# Altium integrated library Lattice FPGA FPSC.IntLib: 28 symbols (part 2 of 9)
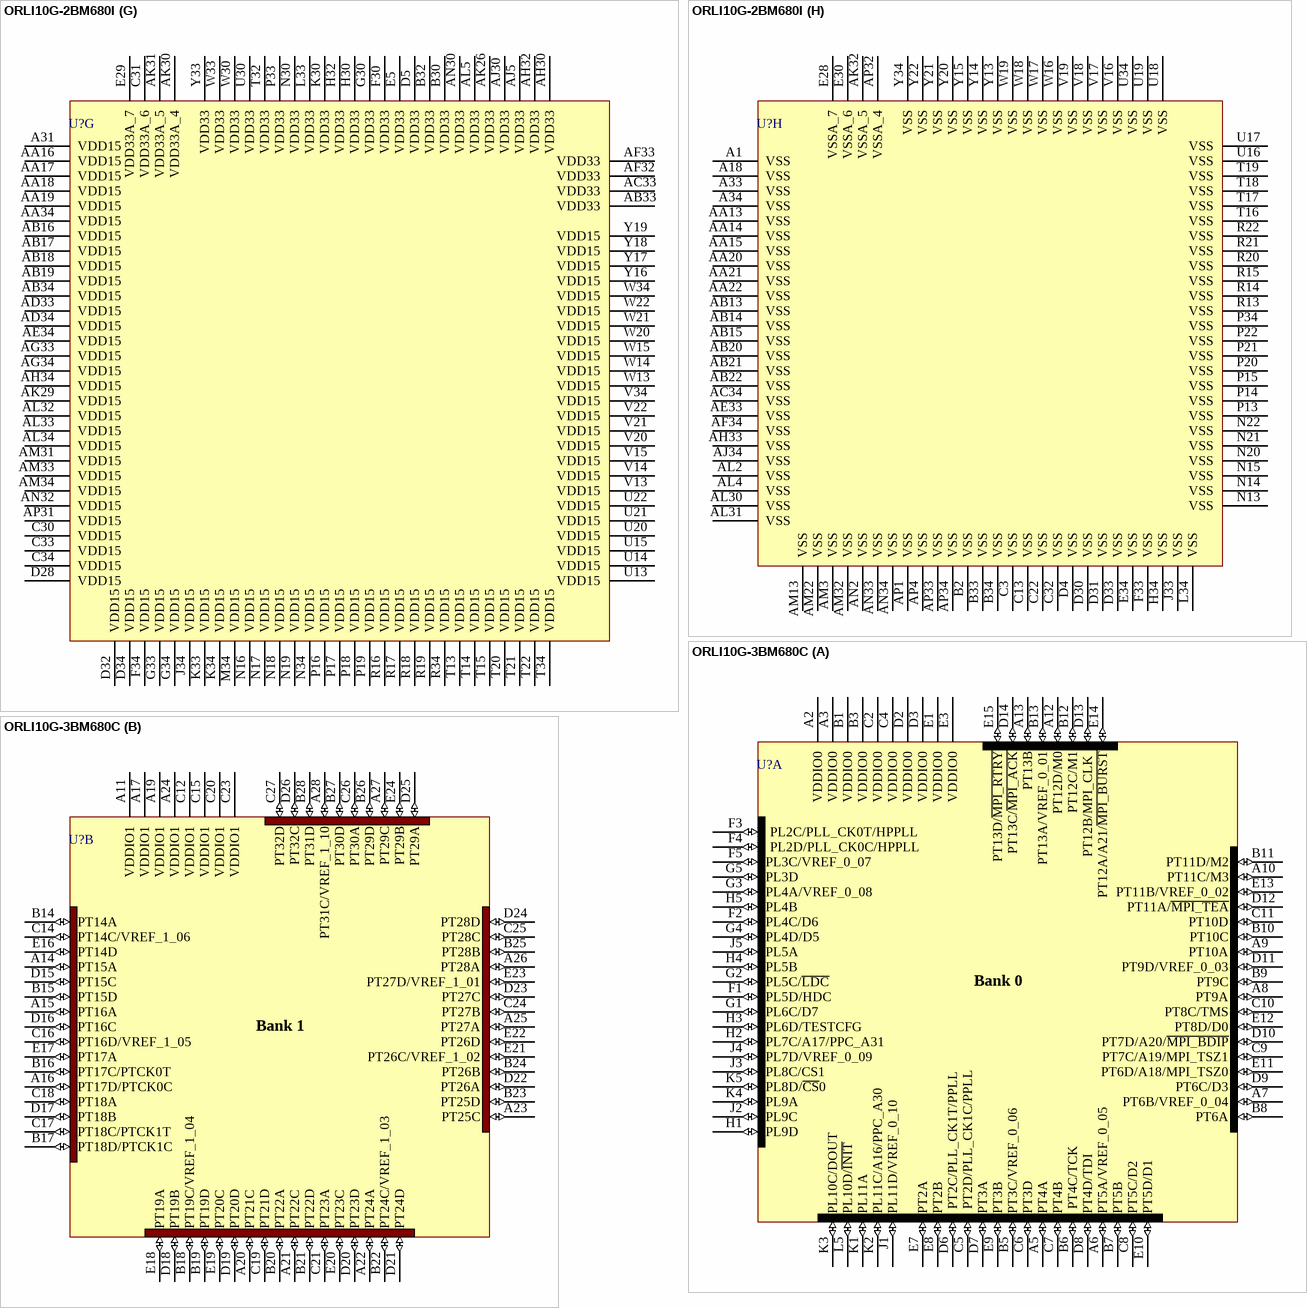
[diagram p53: symbols ORLI10G-2BM680I to ORLI10G-3BM680C]

## ORLI10G-2BM680I
designator U?
ORCA ORLI10G 10Gbps Line Interface FPSC: 316 User I/Os, 680-Ball fpBGA, Speed Grade 2, Industrial Grade; Published: 17-Dec-2003; LatestRevisionDate: 13-Apr-2006; LatestRevisionNote: IPC-7351 Footprint Added.; DatasheetVersion: orli10g_03 (Feb-2003); PackageVersion: pkg_32, Aug-2005; PackageReference: fpBGA680; Publisher: Altium Limited; PackageDescription: 680-Ball Fine Pitch Ball Grid Array (fpBGA680); ComponentLink1Description: Manufacturer Link; ComponentLink1URL: http://www.latticesemi.com/products/fpsc/orli10g/index.cfm; ComponentLink2Description: Datasheet; ComponentLink2URL: http://www.latticesemi.com/account/_download.cfm?AMID=3973; ComponentLink3Description: Lattice Login; ComponentLink3URL: http://www.latticesemi.com/account/login.cfm
footprint fpBGA680 (BGA, 680-Leads, Body 35x35mm, Pitch 1mm)
3D model ORLI10G-fpBGA680 (680-Ball Fine Pitch Ball Grid Array (fpBGA680))
part A pins: A2 VDDIO0 (power), A3 VDDIO0 (power), A5 PT4A (io), A6 PT5A/VREF_0_05 (io), A7 PT6B/VREF_0_04 (io), A8 PT9A (io), A9 PT10A (io), A10 PT11C/M3 (io), A12 PT12D/M0 (io), A13 PT13B (io), B1 VDDIO0 (power), B3 VDDIO0 (power), B5 PT3C/VREF_0_06 (io), B6 PT4C/TCK (io), B7 PT5B (io), B8 PT6A (io), B9 PT9C (io), B10 PT10C (io), B11 PT11D/M2 (io), B12 PT12C/M1 (io), B13 PT13A/VREF_0_01 (io), C2 VDDIO0 (power), C4 VDDIO0 (power), C5 PT2D/PLL_CK1C/PPLL (io), C6 PT3D (io), C7 PT4B (io), C8 PT5C/D2 (io), C9 PT7C/A19/MPI_TSZ1 (io), C10 PT8C/TMS (io), C11 PT10D (io), D2 VDDIO0 (power), D3 VDDIO0 (power), D6 PT2C/PLL_CK1T/PPLL (io), D7 PT3A (io), D8 PT4D/TDI (io), D9 PT6C/D3 (io), D10 PT7D/A20/~{MPI_BDIP} (io), D11 PT9D/VREF_0_03 (io), D12 PT11A/~{MPI_TEA} (io), D13 PT12B/MPI_CLK (io), D14 PT13C/~{MPI_ACK} (io), E1 VDDIO0 (power), E3 VDDIO0 (power), E7 PT2A (io), E8 PT2B (io), E9 PT3B (io), E10 PT5D/D1 (io), E11 PT6D/A18/MPI_TSZ0 (io), E12 PT8D/D0 (io), E13 PT11B/VREF_0_02 (io), E14 PT12A/A21/~{MPI_BURST} (io), E15 PT13D/~{MPI_RTRY} (io), F1 PL5D/HDC (io), F2 PL4C/D6 (io), F3 PL2C/PLL_CK0T/HPPLL (io), F4 PL2D/PLL_CK0C/HPPLL (io), F5 PL3C/VREF_0_07 (io), G1 PL6C/D7 (io), G2 PL5C/~{LDC} (io), G3 PL4A/VREF_0_08 (io), G4 PL4D/D5 (io), G5 PL3D (io), H1 PL9D (io), H2 PL7C/A17/PPC_A31 (io), H3 PL6D/TESTCFG (io), H4 PL5B (io), H5 PL4B (io), J1 PL11D/VREF_0_10 (io), J2 PL9C (io), J3 PL8C/CS1 (io), J4 PL7D/VREF_0_09 (io), J5 PL5A (io), K1 PL11A (io), K2 PL11C/A16/PPC_A30 (io), K3 PL10C/DOUT (io), K4 PL9A (io), K5 PL8D/~{CS}0 (io), L5 PL10D/~{INIT} (io)
part B pins: A11 VDDIO1 (power), A14 PT15A (io), A15 PT16A (io), A16 PT17D/PTCK0C (io), A17 VDDIO1 (power), A19 VDDIO1 (power), A20 PT21C (io), A21 PT22C (io), A22 PT24A (io), A23 PT25C (io), A24 VDDIO1 (power), A25 PT27A (io), A26 PT28A (io), A27 PT29C (io), A28 PT31C/VREF_1_10 (io), B14 PT14A (io), B15 PT15D (io), B16 PT17C/PTCK0T (io), B17 PT18D/PTCK1C (io), B18 PT19C/VREF_1_04 (io), B19 PT19D (io), B20 PT22A (io), B21 PT22D (io), B22 PT24C/VREF_1_03 (io), B23 PT25D (io), B24 PT26B (io), B25 PT28B (io), B26 PT29D (io), B27 PT30D (io), B28 PT31D (io), C12 VDDIO1 (power), C14 PT14C/VREF_1_06 (io), C15 VDDIO1 (power), C16 PT16D/VREF_1_05 (io), C17 PT18C/PTCK1T (io), C18 PT18A (io), C19 PT21D (io), C20 VDDIO1 (power), C21 PT23A (io), C23 VDDIO1 (power), C24 PT27B (io), C25 PT28C (io), C26 PT30A (io), C27 PT32D (io), D15 PT15C (io), D16 PT16C (io), D17 PT18B (io), D18 PT19B (io), D19 PT20D (io), D20 PT23D (io), D21 PT24D (io), D22 PT26A (io), D23 PT27C (io), D24 PT28D (io), D25 PT29A (io), D26 PT32C (io), E16 PT14D (io), E17 PT17A (io), E18 PT19A (io), E19 PT20C (io), E20 PT23C (io), E21 PT26C/VREF_1_02 (io), E22 PT26D (io), E23 PT27D/VREF_1_01 (io), E24 PT29B (io)
part C pins: AK16 PB18A (io), AK17 PB18D (io), AK18 PB20D (io), AK19 PB22D (io), AK20 PB23C/PBCK1T (io), AK21 PB26A (io), AK22 PB27A (io), AK23 PB28D/VREF_5_06 (io), AK24 PB29D (io), AK25 PB32D (io), AL17 PB18C/VREF_5_01 (io), AL18 PB20B (io), AL19 PB21C (io), AL20 PB22C (io), AL21 PB24C (io), AL22 PB26B (io), AL23 PB27B (io), AL24 PB27D (io), AL25 PB29C (io), AL26 PB32C (io), AM12 VDDIO5 (power), AM15 VDDIO5 (power), AM17 PB19A (io), AM18 PB19D/PBCK0C (io), AM19 PB21A (io), AM20 VDDIO5 (power), AM21 PB23D/PBCK1C (io), AM23 VDDIO5 (power), AM24 PB26D/VREF_5_05 (io), AM25 PB28C (io), AM26 PB30C (io), AM27 PB31D (io), AN16 PB17C (io), AN17 PB19B (io), AN18 PB20A (io), AN19 PB20C/VREF_5_02 (io), AN20 PB21D/VREF_5_03 (io), AN21 PB23A (io), AN22 PB24D (io), AN23 PB25C (io), AN24 PB25D/VREF_5_04 (io), AN25 PB27C (io), AN26 PB29A (io), AN27 PB30D (io), AN28 PB33C (io), AP11 VDDIO5 (power), AP15 PB17A (io), AP16 PB17D (io), AP17 VDDIO5 (power), AP18 PB19C/PBCK0T (io), AP19 VDDIO5 (power), AP20 PB21B (io), AP21 PB22A (io), AP22 PB24A (io), AP23 PB25A (io), AP24 VDDIO5 (power), AP25 PB26C (io), AP26 PB28A (io), AP27 PB30A (io), AP28 PB31C/VREF_5_07 (io), AP29 PB33D/VREF_5_08 (io)
part D pins: AD4 PL32C/VREF_6_01 (io), AD5 PL32D/D8 (io), AE3 PL32A (io), AE4 PL33C/D10 (io), AE5 PL33D/D9 (io), AF2 PL34D (io), AF3 PL34B (io), AF4 PL35A/D12 (io), AF5 PL34A (io), AG1 PL34C/VREF_6_02 (io), AG2 PL35B/D11 (io), AG3 PL36C (io), AG4 PL37D (io), AG5 PL37A/VREF_6_04 (io), AH1 PL36D (io), AH2 PL36B/VREF_6_03 (io), AH3 PL37B (io), AH4 PL38A (io), AH5 PL39B (io), AJ1 PL36A/D13 (io), AJ2 PL38C (io), AJ3 PL39D/PLL_CK7C/HPPLL (io), AJ4 PL39A (io), AK1 PL38B (io), AK2 PL39C/PLL_CK7T/HPPLL (io), AK4 VDDIO6 (power), AK5 VDDIO6 (power), AK6 PB2C/PLL_CK6T/PPLL (io), AK7 PB3A (io), AK8 PB6A (io), AK9 PB6D/D16 (io), AK10 PB7D/D18 (io), AK11 PB9D/D21 (io), AK12 PB11B (io), AK13 PB12B (io), AK14 PB13A (io), AK15 PB14B (io), AL1 VDDIO6 (power), AL3 VDDIO6 (power), AL6 PB2D/PLL_CK6C/PPLL (io), AL7 PB4C (io), AL8 PB6B (io), AL9 PB7C/D17 (io), AL10 PB8D/D19 (io), AL11 PB9C/D20 (io), AL12 PB12A (io), AL13 PB13B (io), AL14 PB14A (io), AL15 PB15D/D30 (io), AL16 PB16D/D31 (io), AM1 VDDIO6 (power), AM2 VDDIO6 (power), AM4 VDDIO6 (power), AM5 PB2A/DP2 (io), AM6 PB3D (io), AM7 PB4D (io), AM8 PB6C/D15 (io), AM9 PB8C/VREF_6_07 (io), AM10 PB10A (io), AM11 PB11A (io), AM14 PB15C/D29 (io), AM16 PB16C/VREF_6_11 (io), AN3 VDDIO6 (power), AN4 PB2B (io), AN5 PB3C (io), AN6 PB4A/VREF_6_05 (io), AN7 PB5C/VREF_6_06 (io), AN8 PB8A (io), AN9 PB10C/VREF_6_08 (io), AN10 PB11C/D23 (io), AN11 PB12C/VREF_6_09 (io), AN12 PB12D/D25 (io), AN13 PB13D/D27 (io), AN14 PB15A (io), AN15 PB16A (io), AP2 VDDIO6 (power), AP3 VDDIO6 (power), AP5 PB4B/DP3 (io), AP6 PB5D/D14 (io), AP7 PB7A (io), AP8 PB9A (io), AP9 PB10D/D22 (io), AP10 PB11D/D24 (io), AP12 PB13C/D26 (io), AP13 PB14C/VREF_6_10 (io), AP14 PB14D/D28 (io)
part E pins: AA1 PL26D/A6/PPC_A20 (io), AA2 PL25A (io), AA3 PL25C/A7/PPC_A21 (io), AA4 PL26B (io), AA5 PL27B (io), AB1 PL26C/A5/PPC_A19 (io), AB2 PL27D/~{WR}/MPI_RW (io), AB3 PL27C/VREF_7_07 (io), AB4 PL27A (io), AB5 PL29D/A3/PPC_A17 (io), AC1 PL28C/VREF_7_08 (io), AC2 PL28D/A4/PPC_A18 (io), AC3 VDDIO7 (power), AC4 PL29C/A2/PPC_A16 (io), AC5 PL30D/A1/PPC_A15 (io), AD1 VDDIO7 (power), AD2 PL29A (io), AD3 PL30C/A0/PPC_A14 (io), AE1 PL31D/DP0 (io), AE2 PL31C/DP1 (io), AF1 PL31A (io), L1 VDDIO7 (power), L2 PL13C/D4 (io), L3 PL13D/VREF_7_01 (io), L4 PL12C/A14/PPC_A28 (io), M1 PL14C/VREF_7_02 (io), M2 PL14D/RDY/~{BUSY}/RCLK (io), M3 VDDIO7 (power), M4 PL12B (io), M5 PL12D/A15/PPC_A29 (io), N1 PL17D/A11/PPC_A25 (io), N2 PL15C/A12/PPC_A26 (io), N3 PL15D/A13/PPC_A27 (io), N4 PL13B (io), N5 PL12A (io), P1 PL18D (io), P2 PL17C/VREF_7_03 (io), P3 PL16C (io), P4 PL16D (io), P5 PL13A (io), R1 PL18A (io), R2 PL18C (io), R3 VDDIO7 (power), R4 PL17A (io), R5 PL16A (io), T1 PL20D/PLCK0C (io), T2 PL18B (io), T3 PL19A (io), T4 PL19C/VREF_7_04 (io), T5 PL19D/~{RD}/~{MPI_STRB} (io), U1 VDDIO7 (power), U2 PL20A (io), U3 PL20C/PLCK0T (io), U4 PL20B (io), U5 PL19B (io), V1 PL21D/A10/PPC_A24 (io), V2 PL21C/A9/PPC_A23 (io), V3 PL21B (io), V4 PL21A (io), V5 PL22D/A8/PPC_A22 (io), W1 VDDIO7 (power), W2 PL23C (io), W3 PL23D (io), W4 PL22C/VREF_7_05 (io), W5 PL24D/PLCK1C (io), Y1 PL23A (io), Y2 PL24A (io), Y3 VDDIO7 (power), Y4 PL24C/PLCK1T (io), Y5 PL25D/VREF_7_06 (io)
part F pins: A4 ~{CFG_IRQ/MPI_IRQ} (out), A29 PLL_BYPASS (in), A30 PWRDN (in), A32 TX_DAT_OUT_40_N/TX_DAT_OUT_12_N (out), AA30 LVCTAP_5 (in), AA31 RX_CLK_IN_3_P (in), AA32 RX_DAT_IN_40_P/RX_DAT_IN_12_P (in), AA33 RX_DAT_IN_40_N/RX_DAT_IN_12_N (in), AB30 LVCTAP_4 (in), AB31 RX_CLK_IN_2_P (in), AB32 RX_CLK_IN_2_N (in), AC30 RX_DAT_IN_30_P/RX_DAT_IN_8_P (in), AC31 RX_DAT_IN_33_P/RX_DAT_IN_11_P (in), AC32 RX_DAT_IN_33_N/RX_DAT_IN_11_N (in), AD30 RX_DAT_IN_30_N/RX_DAT_IN_8_N (in), AD31 RX_DAT_IN_32_P/RX_DAT_IN_10_P (in), AD32 RX_DAT_IN_32_N/RX_DAT_IN_10_N (in), AE30 LVCTAP_3 (in), AE31 RX_DAT_IN_31_P/RX_DAT_IN_9_P (in), AE32 RX_DAT_IN_31_N/RX_DAT_IN_9_N (in), AF30 RX_DAT_IN_22_P/RX_DAT_IN_6_P (in), AF31 RX_CLK_IN_1_N (in), AG30 RX_DAT_IN_21_N/RX_DAT_IN_5_N (in), AG31 RX_DAT_IN_22_N/RX_DAT_IN_6_N (in), AG32 RX_CLK_IN_1_P (in), AH31 RX_DAT_IN_21_P/RX_DAT_IN_5_P (in), AJ31 LVCTAP_2 (in), AJ32 RX_DAT_IN_20_N/RX_DAT_IN_4_N (in), AJ33 RX_DAT_IN_23_N/RX_DAT_IN_7_N (in), AK3 PTEMP (in), AK27 RX_DAT_IN_13_P/RX_DAT_IN_3_P (in), AK28 RX_DAT_IN_13_N/RX_DAT_IN_3_N (in), AK33 RX_DAT_IN_20_P/RX_DAT_IN_4_P (in), AK34 RX_DAT_IN_23_P/RX_DAT_IN_7_P (in), AL27 RX_DAT_IN_10_P/RX_DAT_IN_0_P (in), AL28 RX_DAT_IN_12_P/RX_DAT_IN_2_P (in), AL29 RX_CLK_IN_0_P (in), AM28 RX_DAT_IN_10_N/RX_DAT_IN_0_N (in), AM29 RX_DAT_IN_12_N/RX_DAT_IN_2_N (in), AM30 RX_CLK_IN_0_N (in), AN1 LVDS_R, AN29 RX_DAT_IN_11_P/RX_DAT_IN_1_P (in), AN31 LVCTAP_1 (in), AP30 RX_DAT_IN_11_N/RX_DAT_IN_1_N (in), B4 CCLK (io), B29 RESET_TX (in), B31 TX_DAT_OUT_40_P/TX_DAT_OUT_12_P (out), C1 ~{RESET} (in), C28 TX_DAT_OUT_43_N/TX_DAT_OUT_15_N (out), C29 TX_DAT_OUT_42_P/TX_DAT_OUT_14_P (out), D1 ~{RD_CFG} (in), D27 TX_DAT_OUT_43_P/TX_DAT_OUT_15_P (out), D29 TX_DAT_OUT_42_N/TX_DAT_OUT_14_N (out), E2 ~{PRGRM} (in), E4 RD_DATA/TDO (out), E6 DONE (io), E25 RESET_RX (in), E26 TX_DAT_OUT_41_P/TX_DAT_OUT_13_P (out), E27 TX_DAT_OUT_41_N/TX_DAT_OUT_13_N (out), E31 TX_CLK_OUT_3_N (out), E32 TX_DAT_OUT_33_N/TX_DAT_OUT_11_N (out), E33 TX_DAT_OUT_33_P/TX_DAT_OUT_11_P (out), F31 TX_CLK_OUT_3_P (out), F32 TX_DAT_OUT_32_N/TX_DAT_OUT_10_N (out), G31 TX_DAT_OUT_32_P/TX_DAT_OUT_10_P (out), G32 LVCTAP_6 (in), H31 TX_CLK_IN_P (in), H33 TX_DAT_OUT_31_P/TX_DAT_OUT_9_P (out), J30 TX_CLK_IN_N (in), J31 TX_DAT_OUT_30_P/TX_DAT_OUT_8_P (out), J32 TX_DAT_OUT_31_N/TX_DAT_OUT_9_N (out), K31 TX_DAT_OUT_30_N/TX_DAT_OUT_8_N (out), K32 TX_DAT_OUT_23_N/TX_DAT_OUT_7_N (out), L30 TX_CLK_OUT_2_P (out), L31 TX_CLK_OUT_2_N (out), L32 TX_DAT_OUT_23_P/TX_DAT_OUT_7_P (out), M30 TX_DAT_OUT_22_N/TX_DAT_OUT_6_N (out), M31 TX_DAT_OUT_22_P/TX_DAT_OUT_6_P (out), M32 TX_DAT_OUT_21_N/TX_DAT_OUT_5_N (out), M33 TX_DAT_OUT_21_P/TX_DAT_OUT_5_P (out), N31 TX_DAT_OUT_20_N/TX_DAT_OUT_4_N (out), N32 TX_DAT_OUT_20_P/TX_DAT_OUT_4_P (out), N33 TX_DAT_OUT_13_P/TX_DAT_OUT_3_P (out), P30 TX_CLK_OUT_1_P (out), P31 TX_CLK_OUT_1_N (out), P32 TX_DAT_OUT_13_N/TX_DAT_OUT_3_N (out), R30 TX_DAT_OUT_12_N/TX_DAT_OUT_2_N (out), R31 TX_DAT_OUT_12_P/TX_DAT_OUT_2_P (out), R32 TX_DAT_OUT_11_N/TX_DAT_OUT_1_N (out), R33 TX_DAT_OUT_11_P/TX_DAT_OUT_1_P (out), T30 TX_DAT_OUT_10_N/TX_DAT_OUT_0_N (out), T31 TX_DAT_OUT_10_P/TX_DAT_OUT_0_P (out), T33 TX_CLK_OUT_0_N (out), U31 LV_RESLO (in), U32 TX_CLK_OUT_0_P (out), U33 LV_RESHI (in), V30 RX_DAT_IN_43_P/RX_DAT_IN_15_P (in), V31 RX_DAT_IN_43_N/RX_DAT_IN_15_N (in), V32 LV_REF10 (in), V33 LV_REF14 (in), W31 RX_DAT_IN_42_P/RX_DAT_IN_14_P (in), W32 RX_DAT_IN_42_N/RX_DAT_IN_14_N (in), Y30 RX_CLK_IN_3_N (in), Y31 RX_DAT_IN_41_P/RX_DAT_IN_13_P (in), Y32 RX_DAT_IN_41_N/RX_DAT_IN_13_N (in)
part G pins: A31 VDD15 (power), AA16 VDD15 (power), AA17 VDD15 (power), AA18 VDD15 (power), AA19 VDD15 (power), AA34 VDD15 (power), AB16 VDD15 (power), AB17 VDD15 (power), AB18 VDD15 (power), AB19 VDD15 (power), AB33 VDD33 (power), AB34 VDD15 (power), AC33 VDD33 (power), AD33 VDD15 (power), AD34 VDD15 (power), AE34 VDD15 (power), AF32 VDD33 (power), AF33 VDD33 (power), AG33 VDD15 (power), AG34 VDD15 (power), AH30 VDD33 (power), AH32 VDD33 (power), AH34 VDD15 (power), AJ5 VDD33 (power), AJ30 VDD33 (power), AK26 VDD33 (power), AK29 VDD15 (power), AK30 VDD33A_4 (power), AK31 VDD33A_5 (power), AL5 VDD33 (power), AL32 VDD15 (power), AL33 VDD15 (power), AL34 VDD15 (power), AM31 VDD15 (power), AM33 VDD15 (power), AM34 VDD15 (power), AN30 VDD33 (power), AN32 VDD15 (power), AP31 VDD15 (power), B30 VDD33 (power), B32 VDD33 (power), C30 VDD15 (power), C31 VDD33A_6 (power), C33 VDD15 (power), C34 VDD15 (power), D5 VDD33 (power), D28 VDD15 (power), D32 VDD15 (power), D34 VDD15 (power), E5 VDD33 (power), E29 VDD33A_7 (power), F30 VDD33 (power), F34 VDD15 (power), G30 VDD33 (power), G33 VDD15 (power), G34 VDD15 (power), H30 VDD33 (power), H32 VDD33 (power), J34 VDD15 (power), K30 VDD33 (power), K33 VDD15 (power), K34 VDD15 (power), L33 VDD33 (power), M34 VDD15 (power), N16 VDD15 (power), N17 VDD15 (power), N18 VDD15 (power), N19 VDD15 (power), N30 VDD33 (power), N34 VDD15 (power), P16 VDD15 (power), P17 VDD15 (power), P18 VDD15 (power), P19 VDD15 (power), P33 VDD33 (power), R16 VDD15 (power), R17 VDD15 (power), R18 VDD15 (power), R19 VDD15 (power), R34 VDD15 (power), T13 VDD15 (power), T14 VDD15 (power), T15 VDD15 (power), T20 VDD15 (power), T21 VDD15 (power), T22 VDD15 (power), T32 VDD33 (power), T34 VDD15 (power), U13 VDD15 (power), U14 VDD15 (power), U15 VDD15 (power), U20 VDD15 (power), U21 VDD15 (power), U22 VDD15 (power), U30 VDD33 (power), V13 VDD15 (power), V14 VDD15 (power), V15 VDD15 (power), V20 VDD15 (power), V21 VDD15 (power), V22 VDD15 (power), V34 VDD15 (power), W13 VDD15 (power), W14 VDD15 (power), W15 VDD15 (power), W20 VDD15 (power), W21 VDD15 (power), W22 VDD15 (power), W30 VDD33 (power), W33 VDD33 (power), W34 VDD15 (power), Y16 VDD15 (power), Y17 VDD15 (power), Y18 VDD15 (power), Y19 VDD15 (power), Y33 VDD33 (power)
part H pins: A1 VSS (power), A18 VSS (power), A33 VSS (power), A34 VSS (power), AA13 VSS (power), AA14 VSS (power), AA15 VSS (power), AA20 VSS (power), AA21 VSS (power), AA22 VSS (power), AB13 VSS (power), AB14 VSS (power), AB15 VSS (power), AB20 VSS (power), AB21 VSS (power), AB22 VSS (power), AC34 VSS (power), AE33 VSS (power), AF34 VSS (power), AH33 VSS (power), AJ34 VSS (power), AK32 VSSA_5 (power), AL2 VSS (power), AL4 VSS (power), AL30 VSS (power), AL31 VSS (power), AM3 VSS (power), AM13 VSS (power), AM22 VSS (power), AM32 VSS (power), AN2 VSS (power), AN33 VSS (power), AN34 VSS (power), AP1 VSS (power), AP4 VSS (power), AP32 VSSA_4 (power), AP33 VSS (power), AP34 VSS (power), B2 VSS (power), B33 VSS (power), B34 VSS (power), C3 VSS (power), C13 VSS (power), C22 VSS (power), C32 VSS (power), D4 VSS (power), D30 VSS (power), D31 VSS (power), D33 VSS (power), E28 VSSA_7 (power), E30 VSSA_6 (power), E34 VSS (power), F33 VSS (power), H34 VSS (power), J33 VSS (power), L34 VSS (power), N13 VSS (power), N14 VSS (power), N15 VSS (power), N20 VSS (power), N21 VSS (power), N22 VSS (power), P13 VSS (power), P14 VSS (power), P15 VSS (power), P20 VSS (power), P21 VSS (power), P22 VSS (power), P34 VSS (power), R13 VSS (power), R14 VSS (power), R15 VSS (power), R20 VSS (power), R21 VSS (power), R22 VSS (power), T16 VSS (power), T17 VSS (power), T18 VSS (power), T19 VSS (power), U16 VSS (power), U17 VSS (power), U18 VSS (power), U19 VSS (power), U34 VSS (power), V16 VSS (power), V17 VSS (power), V18 VSS (power), V19 VSS (power), W16 VSS (power), W17 VSS (power), W18 VSS (power), W19 VSS (power), Y13 VSS (power), Y14 VSS (power), Y15 VSS (power), Y20 VSS (power), Y21 VSS (power), Y22 VSS (power), Y34 VSS (power)
part A text: Bank 0
part B text: Bank 1
part C text: Bank 5
part D text: Bank 6
part E text: Bank 7

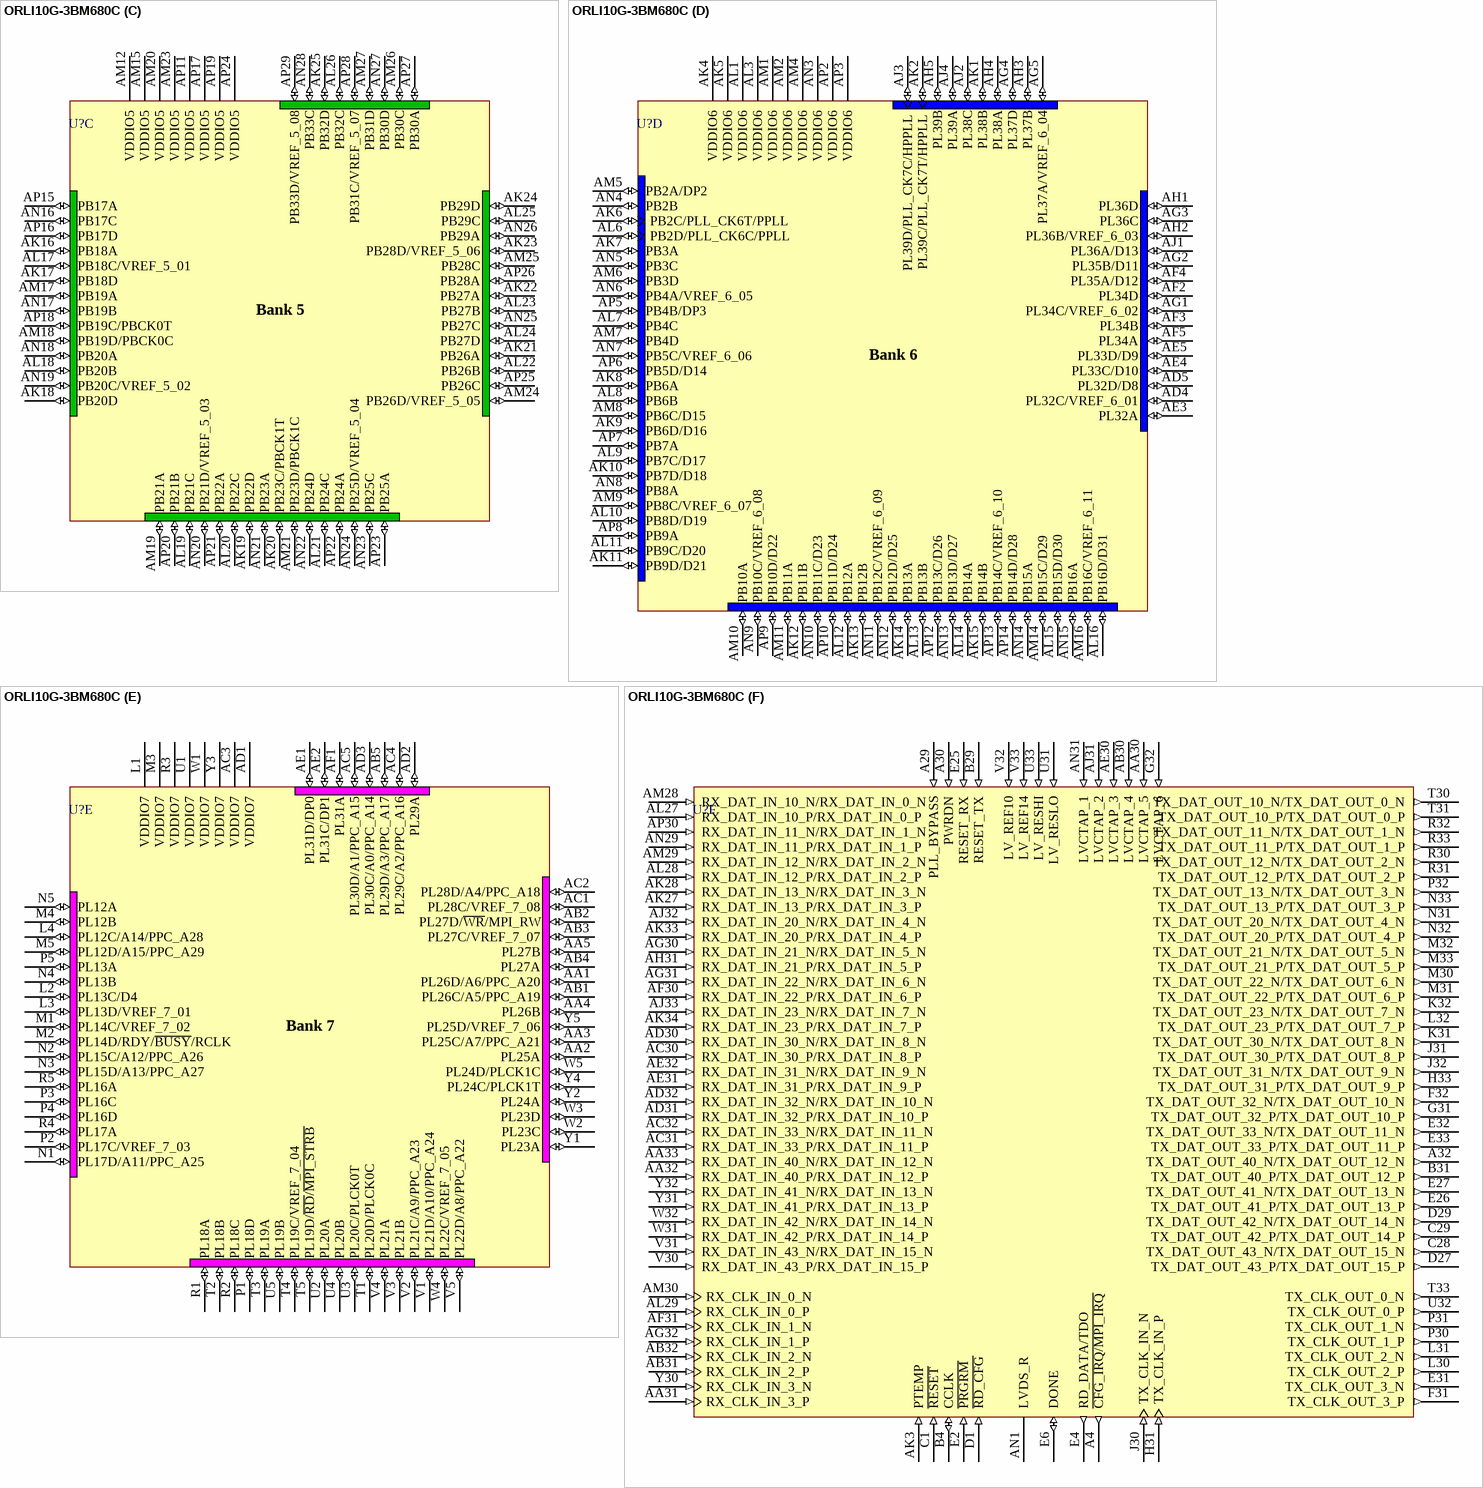
[diagram p9: symbol ORLI10G-3BM680C]

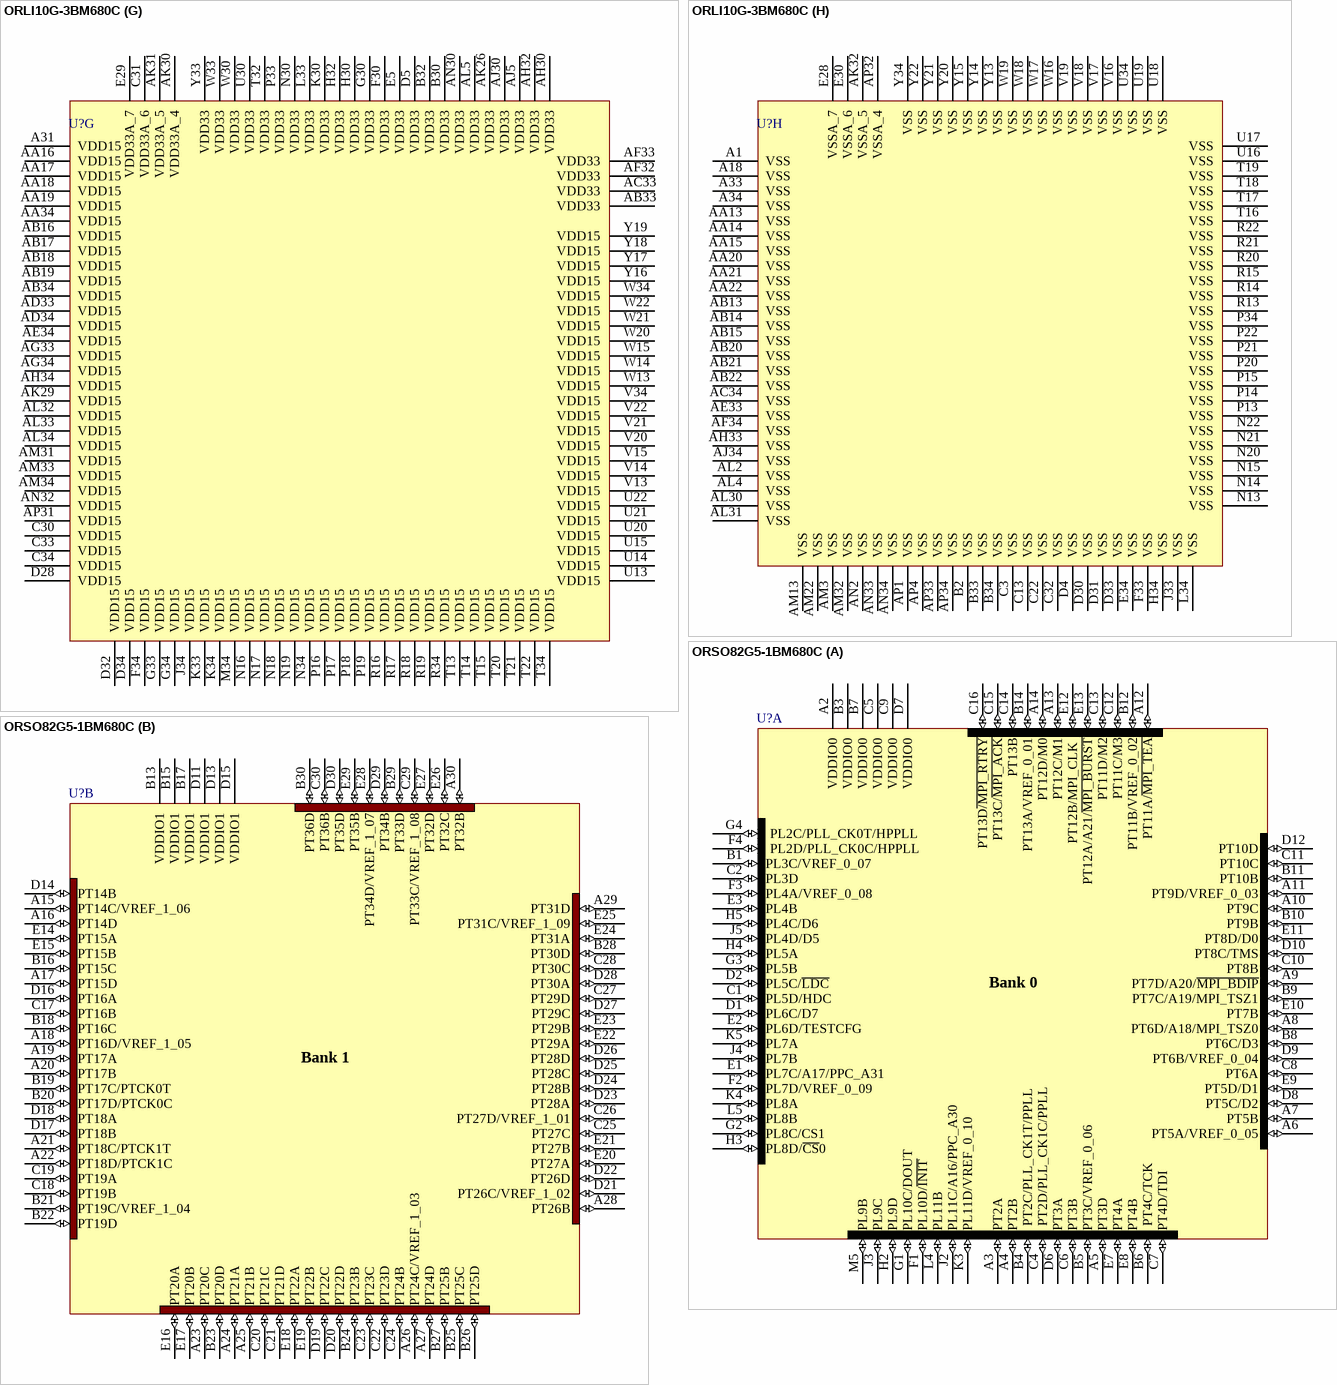
[diagram p10: symbols ORLI10G-3BM680C to ORSO82G5-1BM680C]

## ORLI10G-3BM680C
designator U?
ORCA ORLI10G 10Gbps Line Interface FPSC: 316 User I/Os, 680-Ball fpBGA, Speed Grade 3, Commercial Grade; Published: 17-Dec-2003; LatestRevisionDate: 13-Apr-2006; LatestRevisionNote: IPC-7351 Footprint Added.; DatasheetVersion: orli10g_03 (Feb-2003); PackageVersion: pkg_32, Aug-2005; PackageReference: fpBGA680; Publisher: Altium Limited; PackageDescription: 680-Ball Fine Pitch Ball Grid Array (fpBGA680); ComponentLink1Description: Manufacturer Link; ComponentLink1URL: http://www.latticesemi.com/products/fpsc/orli10g/index.cfm; ComponentLink2Description: Datasheet; ComponentLink2URL: http://www.latticesemi.com/account/_download.cfm?AMID=3973; ComponentLink3Description: Lattice Login; ComponentLink3URL: http://www.latticesemi.com/account/login.cfm
footprint fpBGA680 (BGA, 680-Leads, Body 35x35mm, Pitch 1mm)
3D model ORLI10G-fpBGA680 (680-Ball Fine Pitch Ball Grid Array (fpBGA680))
part A pins: A2 VDDIO0 (power), A3 VDDIO0 (power), A5 PT4A (io), A6 PT5A/VREF_0_05 (io), A7 PT6B/VREF_0_04 (io), A8 PT9A (io), A9 PT10A (io), A10 PT11C/M3 (io), A12 PT12D/M0 (io), A13 PT13B (io), B1 VDDIO0 (power), B3 VDDIO0 (power), B5 PT3C/VREF_0_06 (io), B6 PT4C/TCK (io), B7 PT5B (io), B8 PT6A (io), B9 PT9C (io), B10 PT10C (io), B11 PT11D/M2 (io), B12 PT12C/M1 (io), B13 PT13A/VREF_0_01 (io), C2 VDDIO0 (power), C4 VDDIO0 (power), C5 PT2D/PLL_CK1C/PPLL (io), C6 PT3D (io), C7 PT4B (io), C8 PT5C/D2 (io), C9 PT7C/A19/MPI_TSZ1 (io), C10 PT8C/TMS (io), C11 PT10D (io), D2 VDDIO0 (power), D3 VDDIO0 (power), D6 PT2C/PLL_CK1T/PPLL (io), D7 PT3A (io), D8 PT4D/TDI (io), D9 PT6C/D3 (io), D10 PT7D/A20/~{MPI_BDIP} (io), D11 PT9D/VREF_0_03 (io), D12 PT11A/~{MPI_TEA} (io), D13 PT12B/MPI_CLK (io), D14 PT13C/~{MPI_ACK} (io), E1 VDDIO0 (power), E3 VDDIO0 (power), E7 PT2A (io), E8 PT2B (io), E9 PT3B (io), E10 PT5D/D1 (io), E11 PT6D/A18/MPI_TSZ0 (io), E12 PT8D/D0 (io), E13 PT11B/VREF_0_02 (io), E14 PT12A/A21/~{MPI_BURST} (io), E15 PT13D/~{MPI_RTRY} (io), F1 PL5D/HDC (io), F2 PL4C/D6 (io), F3 PL2C/PLL_CK0T/HPPLL (io), F4 PL2D/PLL_CK0C/HPPLL (io), F5 PL3C/VREF_0_07 (io), G1 PL6C/D7 (io), G2 PL5C/~{LDC} (io), G3 PL4A/VREF_0_08 (io), G4 PL4D/D5 (io), G5 PL3D (io), H1 PL9D (io), H2 PL7C/A17/PPC_A31 (io), H3 PL6D/TESTCFG (io), H4 PL5B (io), H5 PL4B (io), J1 PL11D/VREF_0_10 (io), J2 PL9C (io), J3 PL8C/CS1 (io), J4 PL7D/VREF_0_09 (io), J5 PL5A (io), K1 PL11A (io), K2 PL11C/A16/PPC_A30 (io), K3 PL10C/DOUT (io), K4 PL9A (io), K5 PL8D/~{CS}0 (io), L5 PL10D/~{INIT} (io)
part B pins: A11 VDDIO1 (power), A14 PT15A (io), A15 PT16A (io), A16 PT17D/PTCK0C (io), A17 VDDIO1 (power), A19 VDDIO1 (power), A20 PT21C (io), A21 PT22C (io), A22 PT24A (io), A23 PT25C (io), A24 VDDIO1 (power), A25 PT27A (io), A26 PT28A (io), A27 PT29C (io), A28 PT31C/VREF_1_10 (io), B14 PT14A (io), B15 PT15D (io), B16 PT17C/PTCK0T (io), B17 PT18D/PTCK1C (io), B18 PT19C/VREF_1_04 (io), B19 PT19D (io), B20 PT22A (io), B21 PT22D (io), B22 PT24C/VREF_1_03 (io), B23 PT25D (io), B24 PT26B (io), B25 PT28B (io), B26 PT29D (io), B27 PT30D (io), B28 PT31D (io), C12 VDDIO1 (power), C14 PT14C/VREF_1_06 (io), C15 VDDIO1 (power), C16 PT16D/VREF_1_05 (io), C17 PT18C/PTCK1T (io), C18 PT18A (io), C19 PT21D (io), C20 VDDIO1 (power), C21 PT23A (io), C23 VDDIO1 (power), C24 PT27B (io), C25 PT28C (io), C26 PT30A (io), C27 PT32D (io), D15 PT15C (io), D16 PT16C (io), D17 PT18B (io), D18 PT19B (io), D19 PT20D (io), D20 PT23D (io), D21 PT24D (io), D22 PT26A (io), D23 PT27C (io), D24 PT28D (io), D25 PT29A (io), D26 PT32C (io), E16 PT14D (io), E17 PT17A (io), E18 PT19A (io), E19 PT20C (io), E20 PT23C (io), E21 PT26C/VREF_1_02 (io), E22 PT26D (io), E23 PT27D/VREF_1_01 (io), E24 PT29B (io)
part C pins: AK16 PB18A (io), AK17 PB18D (io), AK18 PB20D (io), AK19 PB22D (io), AK20 PB23C/PBCK1T (io), AK21 PB26A (io), AK22 PB27A (io), AK23 PB28D/VREF_5_06 (io), AK24 PB29D (io), AK25 PB32D (io), AL17 PB18C/VREF_5_01 (io), AL18 PB20B (io), AL19 PB21C (io), AL20 PB22C (io), AL21 PB24C (io), AL22 PB26B (io), AL23 PB27B (io), AL24 PB27D (io), AL25 PB29C (io), AL26 PB32C (io), AM12 VDDIO5 (power), AM15 VDDIO5 (power), AM17 PB19A (io), AM18 PB19D/PBCK0C (io), AM19 PB21A (io), AM20 VDDIO5 (power), AM21 PB23D/PBCK1C (io), AM23 VDDIO5 (power), AM24 PB26D/VREF_5_05 (io), AM25 PB28C (io), AM26 PB30C (io), AM27 PB31D (io), AN16 PB17C (io), AN17 PB19B (io), AN18 PB20A (io), AN19 PB20C/VREF_5_02 (io), AN20 PB21D/VREF_5_03 (io), AN21 PB23A (io), AN22 PB24D (io), AN23 PB25C (io), AN24 PB25D/VREF_5_04 (io), AN25 PB27C (io), AN26 PB29A (io), AN27 PB30D (io), AN28 PB33C (io), AP11 VDDIO5 (power), AP15 PB17A (io), AP16 PB17D (io), AP17 VDDIO5 (power), AP18 PB19C/PBCK0T (io), AP19 VDDIO5 (power), AP20 PB21B (io), AP21 PB22A (io), AP22 PB24A (io), AP23 PB25A (io), AP24 VDDIO5 (power), AP25 PB26C (io), AP26 PB28A (io), AP27 PB30A (io), AP28 PB31C/VREF_5_07 (io), AP29 PB33D/VREF_5_08 (io)
part D pins: AD4 PL32C/VREF_6_01 (io), AD5 PL32D/D8 (io), AE3 PL32A (io), AE4 PL33C/D10 (io), AE5 PL33D/D9 (io), AF2 PL34D (io), AF3 PL34B (io), AF4 PL35A/D12 (io), AF5 PL34A (io), AG1 PL34C/VREF_6_02 (io), AG2 PL35B/D11 (io), AG3 PL36C (io), AG4 PL37D (io), AG5 PL37A/VREF_6_04 (io), AH1 PL36D (io), AH2 PL36B/VREF_6_03 (io), AH3 PL37B (io), AH4 PL38A (io), AH5 PL39B (io), AJ1 PL36A/D13 (io), AJ2 PL38C (io), AJ3 PL39D/PLL_CK7C/HPPLL (io), AJ4 PL39A (io), AK1 PL38B (io), AK2 PL39C/PLL_CK7T/HPPLL (io), AK4 VDDIO6 (power), AK5 VDDIO6 (power), AK6 PB2C/PLL_CK6T/PPLL (io), AK7 PB3A (io), AK8 PB6A (io), AK9 PB6D/D16 (io), AK10 PB7D/D18 (io), AK11 PB9D/D21 (io), AK12 PB11B (io), AK13 PB12B (io), AK14 PB13A (io), AK15 PB14B (io), AL1 VDDIO6 (power), AL3 VDDIO6 (power), AL6 PB2D/PLL_CK6C/PPLL (io), AL7 PB4C (io), AL8 PB6B (io), AL9 PB7C/D17 (io), AL10 PB8D/D19 (io), AL11 PB9C/D20 (io), AL12 PB12A (io), AL13 PB13B (io), AL14 PB14A (io), AL15 PB15D/D30 (io), AL16 PB16D/D31 (io), AM1 VDDIO6 (power), AM2 VDDIO6 (power), AM4 VDDIO6 (power), AM5 PB2A/DP2 (io), AM6 PB3D (io), AM7 PB4D (io), AM8 PB6C/D15 (io), AM9 PB8C/VREF_6_07 (io), AM10 PB10A (io), AM11 PB11A (io), AM14 PB15C/D29 (io), AM16 PB16C/VREF_6_11 (io), AN3 VDDIO6 (power), AN4 PB2B (io), AN5 PB3C (io), AN6 PB4A/VREF_6_05 (io), AN7 PB5C/VREF_6_06 (io), AN8 PB8A (io), AN9 PB10C/VREF_6_08 (io), AN10 PB11C/D23 (io), AN11 PB12C/VREF_6_09 (io), AN12 PB12D/D25 (io), AN13 PB13D/D27 (io), AN14 PB15A (io), AN15 PB16A (io), AP2 VDDIO6 (power), AP3 VDDIO6 (power), AP5 PB4B/DP3 (io), AP6 PB5D/D14 (io), AP7 PB7A (io), AP8 PB9A (io), AP9 PB10D/D22 (io), AP10 PB11D/D24 (io), AP12 PB13C/D26 (io), AP13 PB14C/VREF_6_10 (io), AP14 PB14D/D28 (io)
part E pins: AA1 PL26D/A6/PPC_A20 (io), AA2 PL25A (io), AA3 PL25C/A7/PPC_A21 (io), AA4 PL26B (io), AA5 PL27B (io), AB1 PL26C/A5/PPC_A19 (io), AB2 PL27D/~{WR}/MPI_RW (io), AB3 PL27C/VREF_7_07 (io), AB4 PL27A (io), AB5 PL29D/A3/PPC_A17 (io), AC1 PL28C/VREF_7_08 (io), AC2 PL28D/A4/PPC_A18 (io), AC3 VDDIO7 (power), AC4 PL29C/A2/PPC_A16 (io), AC5 PL30D/A1/PPC_A15 (io), AD1 VDDIO7 (power), AD2 PL29A (io), AD3 PL30C/A0/PPC_A14 (io), AE1 PL31D/DP0 (io), AE2 PL31C/DP1 (io), AF1 PL31A (io), L1 VDDIO7 (power), L2 PL13C/D4 (io), L3 PL13D/VREF_7_01 (io), L4 PL12C/A14/PPC_A28 (io), M1 PL14C/VREF_7_02 (io), M2 PL14D/RDY/~{BUSY}/RCLK (io), M3 VDDIO7 (power), M4 PL12B (io), M5 PL12D/A15/PPC_A29 (io), N1 PL17D/A11/PPC_A25 (io), N2 PL15C/A12/PPC_A26 (io), N3 PL15D/A13/PPC_A27 (io), N4 PL13B (io), N5 PL12A (io), P1 PL18D (io), P2 PL17C/VREF_7_03 (io), P3 PL16C (io), P4 PL16D (io), P5 PL13A (io), R1 PL18A (io), R2 PL18C (io), R3 VDDIO7 (power), R4 PL17A (io), R5 PL16A (io), T1 PL20D/PLCK0C (io), T2 PL18B (io), T3 PL19A (io), T4 PL19C/VREF_7_04 (io), T5 PL19D/~{RD}/~{MPI_STRB} (io), U1 VDDIO7 (power), U2 PL20A (io), U3 PL20C/PLCK0T (io), U4 PL20B (io), U5 PL19B (io), V1 PL21D/A10/PPC_A24 (io), V2 PL21C/A9/PPC_A23 (io), V3 PL21B (io), V4 PL21A (io), V5 PL22D/A8/PPC_A22 (io), W1 VDDIO7 (power), W2 PL23C (io), W3 PL23D (io), W4 PL22C/VREF_7_05 (io), W5 PL24D/PLCK1C (io), Y1 PL23A (io), Y2 PL24A (io), Y3 VDDIO7 (power), Y4 PL24C/PLCK1T (io), Y5 PL25D/VREF_7_06 (io)
part F pins: A4 ~{CFG_IRQ/MPI_IRQ} (out), A29 PLL_BYPASS (in), A30 PWRDN (in), A32 TX_DAT_OUT_40_N/TX_DAT_OUT_12_N (out), AA30 LVCTAP_5 (in), AA31 RX_CLK_IN_3_P (in), AA32 RX_DAT_IN_40_P/RX_DAT_IN_12_P (in), AA33 RX_DAT_IN_40_N/RX_DAT_IN_12_N (in), AB30 LVCTAP_4 (in), AB31 RX_CLK_IN_2_P (in), AB32 RX_CLK_IN_2_N (in), AC30 RX_DAT_IN_30_P/RX_DAT_IN_8_P (in), AC31 RX_DAT_IN_33_P/RX_DAT_IN_11_P (in), AC32 RX_DAT_IN_33_N/RX_DAT_IN_11_N (in), AD30 RX_DAT_IN_30_N/RX_DAT_IN_8_N (in), AD31 RX_DAT_IN_32_P/RX_DAT_IN_10_P (in), AD32 RX_DAT_IN_32_N/RX_DAT_IN_10_N (in), AE30 LVCTAP_3 (in), AE31 RX_DAT_IN_31_P/RX_DAT_IN_9_P (in), AE32 RX_DAT_IN_31_N/RX_DAT_IN_9_N (in), AF30 RX_DAT_IN_22_P/RX_DAT_IN_6_P (in), AF31 RX_CLK_IN_1_N (in), AG30 RX_DAT_IN_21_N/RX_DAT_IN_5_N (in), AG31 RX_DAT_IN_22_N/RX_DAT_IN_6_N (in), AG32 RX_CLK_IN_1_P (in), AH31 RX_DAT_IN_21_P/RX_DAT_IN_5_P (in), AJ31 LVCTAP_2 (in), AJ32 RX_DAT_IN_20_N/RX_DAT_IN_4_N (in), AJ33 RX_DAT_IN_23_N/RX_DAT_IN_7_N (in), AK3 PTEMP (in), AK27 RX_DAT_IN_13_P/RX_DAT_IN_3_P (in), AK28 RX_DAT_IN_13_N/RX_DAT_IN_3_N (in), AK33 RX_DAT_IN_20_P/RX_DAT_IN_4_P (in), AK34 RX_DAT_IN_23_P/RX_DAT_IN_7_P (in), AL27 RX_DAT_IN_10_P/RX_DAT_IN_0_P (in), AL28 RX_DAT_IN_12_P/RX_DAT_IN_2_P (in), AL29 RX_CLK_IN_0_P (in), AM28 RX_DAT_IN_10_N/RX_DAT_IN_0_N (in), AM29 RX_DAT_IN_12_N/RX_DAT_IN_2_N (in), AM30 RX_CLK_IN_0_N (in), AN1 LVDS_R, AN29 RX_DAT_IN_11_P/RX_DAT_IN_1_P (in), AN31 LVCTAP_1 (in), AP30 RX_DAT_IN_11_N/RX_DAT_IN_1_N (in), B4 CCLK (io), B29 RESET_TX (in), B31 TX_DAT_OUT_40_P/TX_DAT_OUT_12_P (out), C1 ~{RESET} (in), C28 TX_DAT_OUT_43_N/TX_DAT_OUT_15_N (out), C29 TX_DAT_OUT_42_P/TX_DAT_OUT_14_P (out), D1 ~{RD_CFG} (in), D27 TX_DAT_OUT_43_P/TX_DAT_OUT_15_P (out), D29 TX_DAT_OUT_42_N/TX_DAT_OUT_14_N (out), E2 ~{PRGRM} (in), E4 RD_DATA/TDO (out), E6 DONE (io), E25 RESET_RX (in), E26 TX_DAT_OUT_41_P/TX_DAT_OUT_13_P (out), E27 TX_DAT_OUT_41_N/TX_DAT_OUT_13_N (out), E31 TX_CLK_OUT_3_N (out), E32 TX_DAT_OUT_33_N/TX_DAT_OUT_11_N (out), E33 TX_DAT_OUT_33_P/TX_DAT_OUT_11_P (out), F31 TX_CLK_OUT_3_P (out), F32 TX_DAT_OUT_32_N/TX_DAT_OUT_10_N (out), G31 TX_DAT_OUT_32_P/TX_DAT_OUT_10_P (out), G32 LVCTAP_6 (in), H31 TX_CLK_IN_P (in), H33 TX_DAT_OUT_31_P/TX_DAT_OUT_9_P (out), J30 TX_CLK_IN_N (in), J31 TX_DAT_OUT_30_P/TX_DAT_OUT_8_P (out), J32 TX_DAT_OUT_31_N/TX_DAT_OUT_9_N (out), K31 TX_DAT_OUT_30_N/TX_DAT_OUT_8_N (out), K32 TX_DAT_OUT_23_N/TX_DAT_OUT_7_N (out), L30 TX_CLK_OUT_2_P (out), L31 TX_CLK_OUT_2_N (out), L32 TX_DAT_OUT_23_P/TX_DAT_OUT_7_P (out), M30 TX_DAT_OUT_22_N/TX_DAT_OUT_6_N (out), M31 TX_DAT_OUT_22_P/TX_DAT_OUT_6_P (out), M32 TX_DAT_OUT_21_N/TX_DAT_OUT_5_N (out), M33 TX_DAT_OUT_21_P/TX_DAT_OUT_5_P (out), N31 TX_DAT_OUT_20_N/TX_DAT_OUT_4_N (out), N32 TX_DAT_OUT_20_P/TX_DAT_OUT_4_P (out), N33 TX_DAT_OUT_13_P/TX_DAT_OUT_3_P (out), P30 TX_CLK_OUT_1_P (out), P31 TX_CLK_OUT_1_N (out), P32 TX_DAT_OUT_13_N/TX_DAT_OUT_3_N (out), R30 TX_DAT_OUT_12_N/TX_DAT_OUT_2_N (out), R31 TX_DAT_OUT_12_P/TX_DAT_OUT_2_P (out), R32 TX_DAT_OUT_11_N/TX_DAT_OUT_1_N (out), R33 TX_DAT_OUT_11_P/TX_DAT_OUT_1_P (out), T30 TX_DAT_OUT_10_N/TX_DAT_OUT_0_N (out), T31 TX_DAT_OUT_10_P/TX_DAT_OUT_0_P (out), T33 TX_CLK_OUT_0_N (out), U31 LV_RESLO (in), U32 TX_CLK_OUT_0_P (out), U33 LV_RESHI (in), V30 RX_DAT_IN_43_P/RX_DAT_IN_15_P (in), V31 RX_DAT_IN_43_N/RX_DAT_IN_15_N (in), V32 LV_REF10 (in), V33 LV_REF14 (in), W31 RX_DAT_IN_42_P/RX_DAT_IN_14_P (in), W32 RX_DAT_IN_42_N/RX_DAT_IN_14_N (in), Y30 RX_CLK_IN_3_N (in), Y31 RX_DAT_IN_41_P/RX_DAT_IN_13_P (in), Y32 RX_DAT_IN_41_N/RX_DAT_IN_13_N (in)
part G pins: A31 VDD15 (power), AA16 VDD15 (power), AA17 VDD15 (power), AA18 VDD15 (power), AA19 VDD15 (power), AA34 VDD15 (power), AB16 VDD15 (power), AB17 VDD15 (power), AB18 VDD15 (power), AB19 VDD15 (power), AB33 VDD33 (power), AB34 VDD15 (power), AC33 VDD33 (power), AD33 VDD15 (power), AD34 VDD15 (power), AE34 VDD15 (power), AF32 VDD33 (power), AF33 VDD33 (power), AG33 VDD15 (power), AG34 VDD15 (power), AH30 VDD33 (power), AH32 VDD33 (power), AH34 VDD15 (power), AJ5 VDD33 (power), AJ30 VDD33 (power), AK26 VDD33 (power), AK29 VDD15 (power), AK30 VDD33A_4 (power), AK31 VDD33A_5 (power), AL5 VDD33 (power), AL32 VDD15 (power), AL33 VDD15 (power), AL34 VDD15 (power), AM31 VDD15 (power), AM33 VDD15 (power), AM34 VDD15 (power), AN30 VDD33 (power), AN32 VDD15 (power), AP31 VDD15 (power), B30 VDD33 (power), B32 VDD33 (power), C30 VDD15 (power), C31 VDD33A_6 (power), C33 VDD15 (power), C34 VDD15 (power), D5 VDD33 (power), D28 VDD15 (power), D32 VDD15 (power), D34 VDD15 (power), E5 VDD33 (power), E29 VDD33A_7 (power), F30 VDD33 (power), F34 VDD15 (power), G30 VDD33 (power), G33 VDD15 (power), G34 VDD15 (power), H30 VDD33 (power), H32 VDD33 (power), J34 VDD15 (power), K30 VDD33 (power), K33 VDD15 (power), K34 VDD15 (power), L33 VDD33 (power), M34 VDD15 (power), N16 VDD15 (power), N17 VDD15 (power), N18 VDD15 (power), N19 VDD15 (power), N30 VDD33 (power), N34 VDD15 (power), P16 VDD15 (power), P17 VDD15 (power), P18 VDD15 (power), P19 VDD15 (power), P33 VDD33 (power), R16 VDD15 (power), R17 VDD15 (power), R18 VDD15 (power), R19 VDD15 (power), R34 VDD15 (power), T13 VDD15 (power), T14 VDD15 (power), T15 VDD15 (power), T20 VDD15 (power), T21 VDD15 (power), T22 VDD15 (power), T32 VDD33 (power), T34 VDD15 (power), U13 VDD15 (power), U14 VDD15 (power), U15 VDD15 (power), U20 VDD15 (power), U21 VDD15 (power), U22 VDD15 (power), U30 VDD33 (power), V13 VDD15 (power), V14 VDD15 (power), V15 VDD15 (power), V20 VDD15 (power), V21 VDD15 (power), V22 VDD15 (power), V34 VDD15 (power), W13 VDD15 (power), W14 VDD15 (power), W15 VDD15 (power), W20 VDD15 (power), W21 VDD15 (power), W22 VDD15 (power), W30 VDD33 (power), W33 VDD33 (power), W34 VDD15 (power), Y16 VDD15 (power), Y17 VDD15 (power), Y18 VDD15 (power), Y19 VDD15 (power), Y33 VDD33 (power)
part H pins: A1 VSS (power), A18 VSS (power), A33 VSS (power), A34 VSS (power), AA13 VSS (power), AA14 VSS (power), AA15 VSS (power), AA20 VSS (power), AA21 VSS (power), AA22 VSS (power), AB13 VSS (power), AB14 VSS (power), AB15 VSS (power), AB20 VSS (power), AB21 VSS (power), AB22 VSS (power), AC34 VSS (power), AE33 VSS (power), AF34 VSS (power), AH33 VSS (power), AJ34 VSS (power), AK32 VSSA_5 (power), AL2 VSS (power), AL4 VSS (power), AL30 VSS (power), AL31 VSS (power), AM3 VSS (power), AM13 VSS (power), AM22 VSS (power), AM32 VSS (power), AN2 VSS (power), AN33 VSS (power), AN34 VSS (power), AP1 VSS (power), AP4 VSS (power), AP32 VSSA_4 (power), AP33 VSS (power), AP34 VSS (power), B2 VSS (power), B33 VSS (power), B34 VSS (power), C3 VSS (power), C13 VSS (power), C22 VSS (power), C32 VSS (power), D4 VSS (power), D30 VSS (power), D31 VSS (power), D33 VSS (power), E28 VSSA_7 (power), E30 VSSA_6 (power), E34 VSS (power), F33 VSS (power), H34 VSS (power), J33 VSS (power), L34 VSS (power), N13 VSS (power), N14 VSS (power), N15 VSS (power), N20 VSS (power), N21 VSS (power), N22 VSS (power), P13 VSS (power), P14 VSS (power), P15 VSS (power), P20 VSS (power), P21 VSS (power), P22 VSS (power), P34 VSS (power), R13 VSS (power), R14 VSS (power), R15 VSS (power), R20 VSS (power), R21 VSS (power), R22 VSS (power), T16 VSS (power), T17 VSS (power), T18 VSS (power), T19 VSS (power), U16 VSS (power), U17 VSS (power), U18 VSS (power), U19 VSS (power), U34 VSS (power), V16 VSS (power), V17 VSS (power), V18 VSS (power), V19 VSS (power), W16 VSS (power), W17 VSS (power), W18 VSS (power), W19 VSS (power), Y13 VSS (power), Y14 VSS (power), Y15 VSS (power), Y20 VSS (power), Y21 VSS (power), Y22 VSS (power), Y34 VSS (power)
part A text: Bank 0
part B text: Bank 1
part C text: Bank 5
part D text: Bank 6
part E text: Bank 7

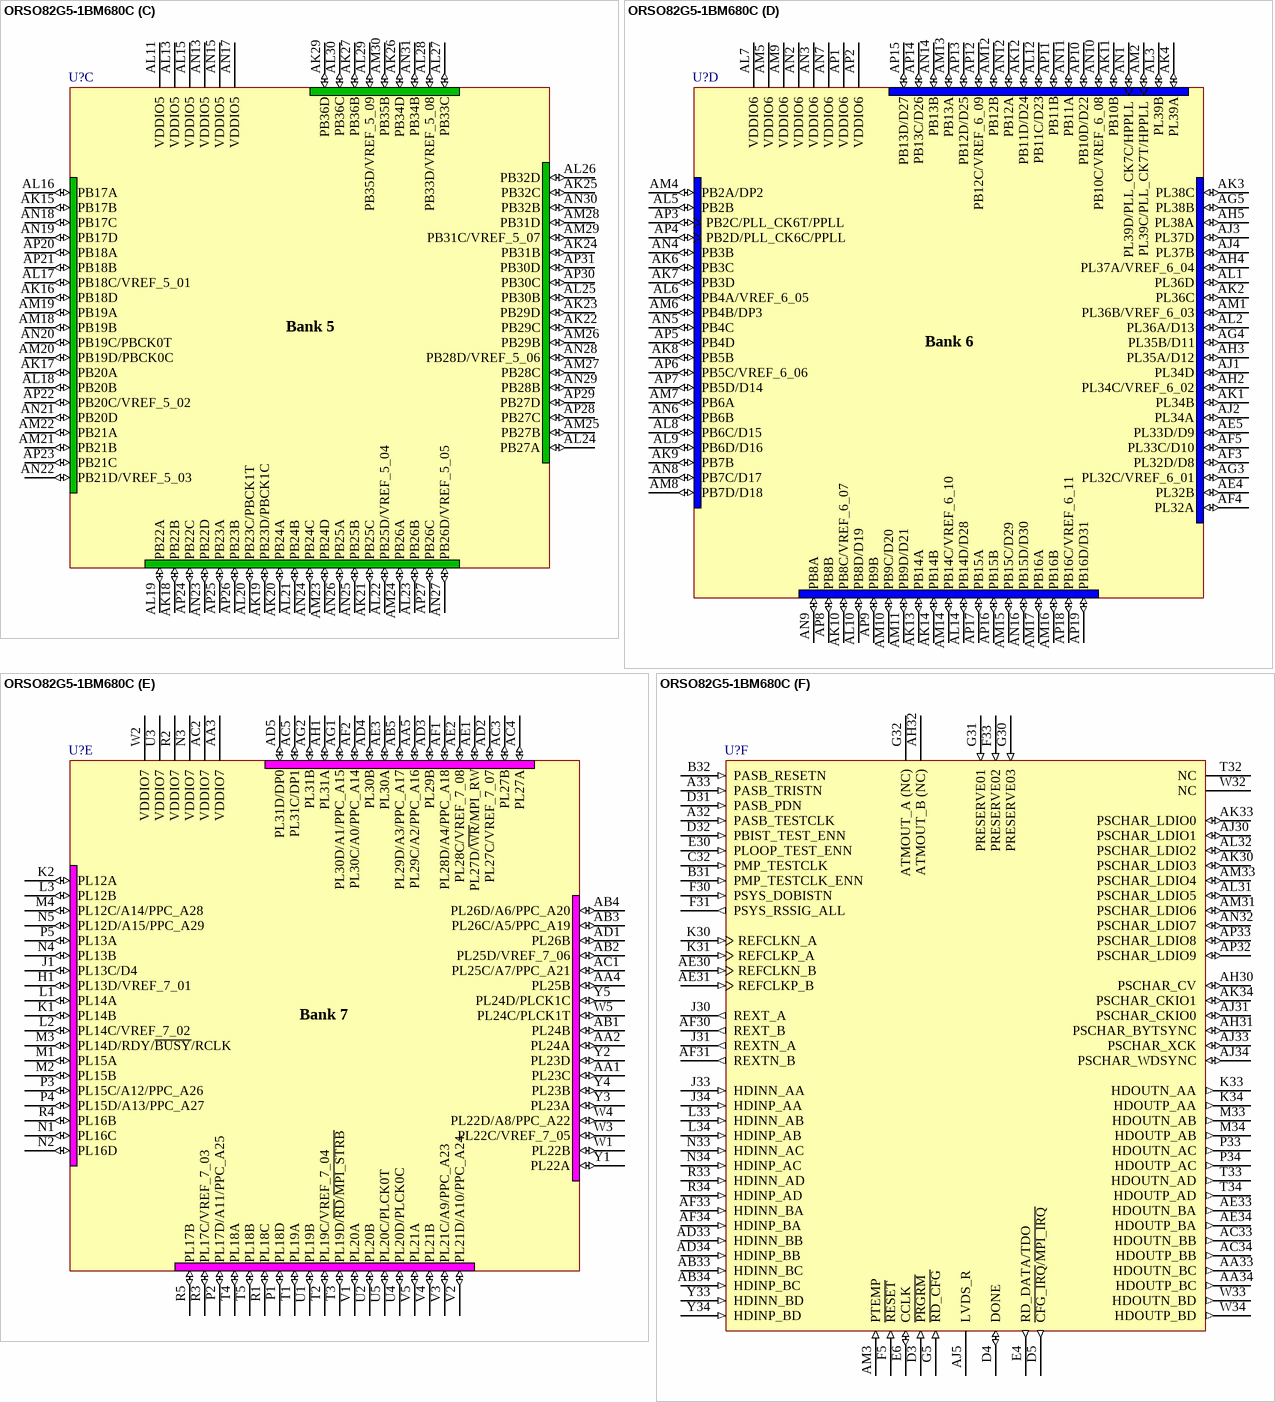
[diagram p11: symbol ORSO82G5-1BM680C]

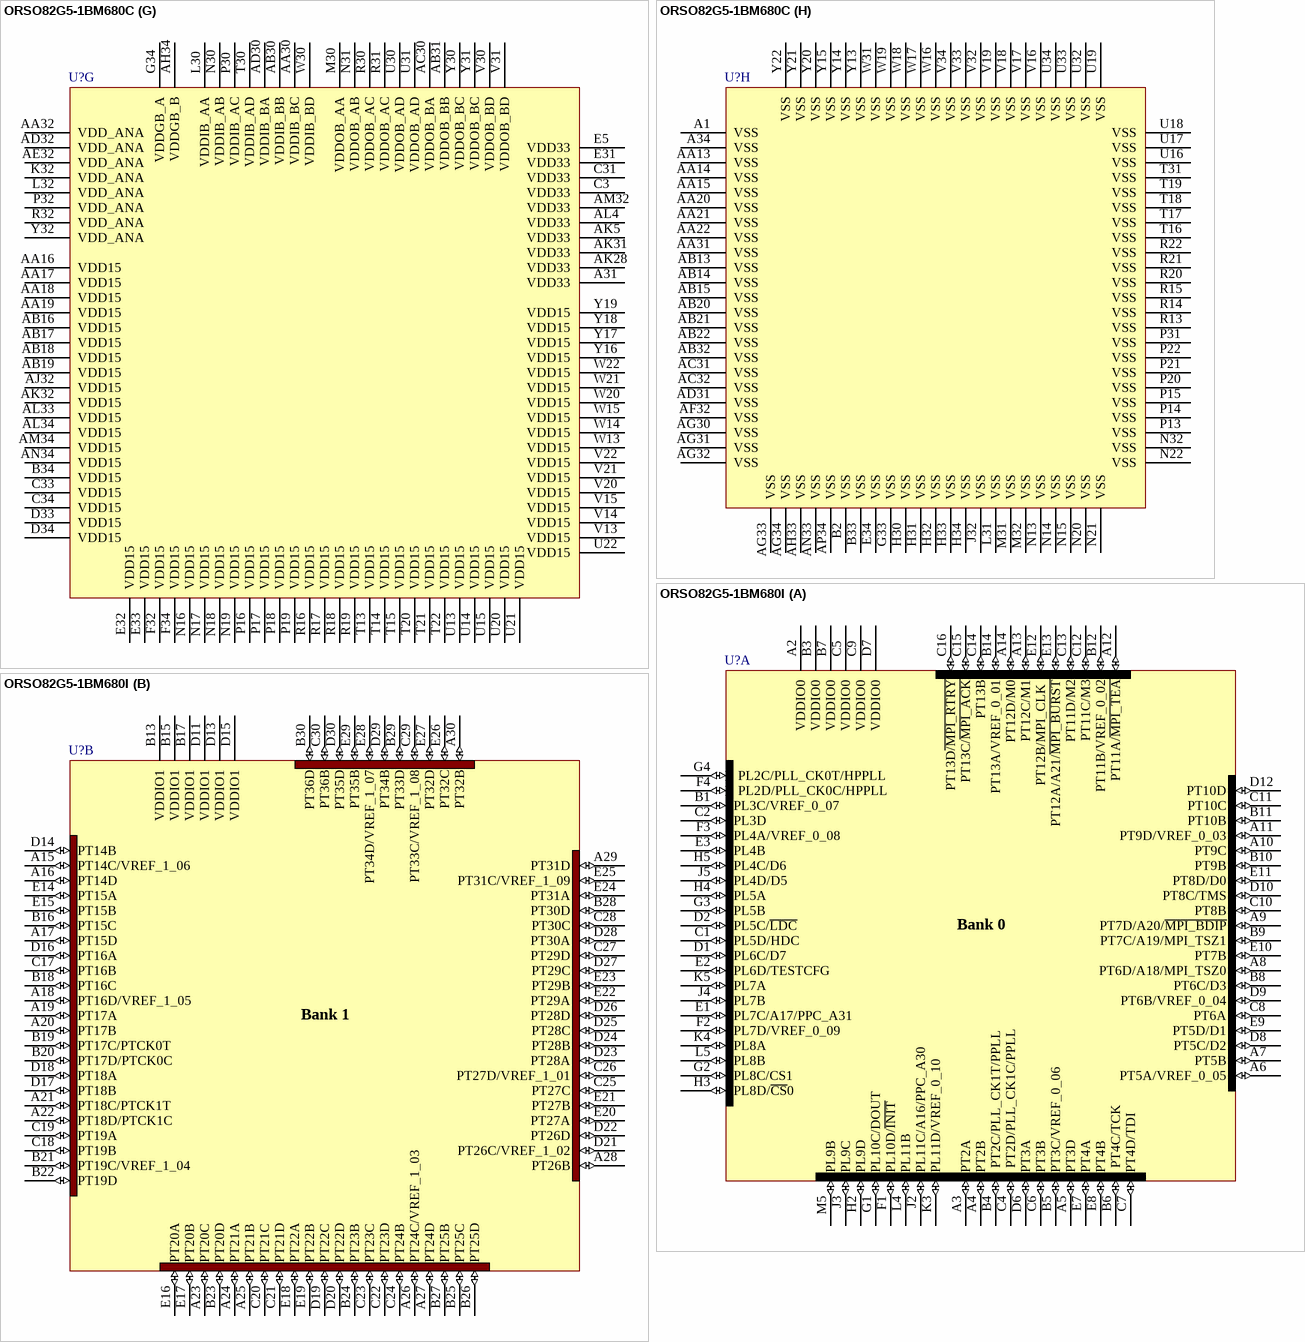
[diagram p12: symbols ORSO82G5-1BM680C to ORSO82G5-1BM680I]

## ORSO82G5-1BM680C
designator U?
ORCA ORSO82G5 0.6 - 2.7 Gbps SONET Backplane Interface FPSC: 372 User I/Os, 680-Ball fpBGA, Speed Grade 1, Commercial Grade; Published: 17-Dec-2003; LatestRevisionDate: 13-Apr-2006; LatestRevisionNote: IPC-7351 Footprint Added.; DatasheetVersion: orso82g5_03 (Apr-2003); PackageVersion: pkg_32, Aug-2005; PackageReference: fpBGA680; Publisher: Altium Limited; PackageDescription: 680-Ball Fine Pitch Ball Grid Array (fpBGA680); ComponentLink1Description: Manufacturer Link; ComponentLink1URL: http://www.latticesemi.com/products/fpsc/orso82g5/index.cfm; ComponentLink2Description: Datasheet; ComponentLink2URL: http://www.latticesemi.com/account/_download.cfm?AMID=5427; ComponentLink3Description: Lattice Login; ComponentLink3URL: http://www.latticesemi.com/account/login.cfm
footprint fpBGA680 (BGA, 680-Leads, Body 35x35mm, Pitch 1mm)
3D model ORSO82G5-fpBGA680 (680-Ball Fine Pitch Ball Grid Array (fpBGA680))
part A pins: A2 VDDIO0 (power), A3 PT2A (io), A4 PT2B (io), A5 PT3D (io), A6 PT5A/VREF_0_05 (io), A7 PT5B (io), A8 PT6D/A18/MPI_TSZ0 (io), A9 PT7D/A20/~{MPI_BDIP} (io), A10 PT9C (io), A11 PT9D/VREF_0_03 (io), A12 PT11A/~{MPI_TEA} (io), A13 PT12C/M1 (io), A14 PT12D/M0 (io), B1 PL3C/VREF_0_07 (io), B3 VDDIO0 (power), B4 PT2C/PLL_CK1T/PPLL (io), B5 PT3C/VREF_0_06 (io), B6 PT4C/TCK (io), B7 VDDIO0 (power), B8 PT6C/D3 (io), B9 PT7C/A19/MPI_TSZ1 (io), B10 PT9B (io), B11 PT10B (io), B12 PT11B/VREF_0_02 (io), B14 PT13A/VREF_0_01 (io), C1 PL5D/HDC (io), C2 PL3D (io), C4 PT2D/PLL_CK1C/PPLL (io), C5 VDDIO0 (power), C6 PT3B (io), C7 PT4D/TDI (io), C8 PT6A (io), C9 VDDIO0 (power), C10 PT8B (io), C11 PT10C (io), C12 PT11C/M3 (io), C13 PT11D/M2 (io), C14 PT13B (io), C15 PT13C/~{MPI_ACK} (io), C16 PT13D~{/MPI_RTRY} (io), D1 PL6C/D7 (io), D2 PL5C/~{LDC} (io), D6 PT3A (io), D7 VDDIO0 (power), D8 PT5C/D2 (io), D9 PT6B/VREF_0_04 (io), D10 PT8C/TMS (io), D12 PT10D (io), E1 PL7C/A17/PPC_A31 (io), E2 PL6D/TESTCFG (io), E3 PL4B (io), E7 PT4A (io), E8 PT4B (io), E9 PT5D/D1 (io), E10 PT7B (io), E11 PT8D/D0 (io), E12 PT12B/MPI_CLK (io), E13 PT12A/A21/~{MPI_BURST} (io), F1 PL10D/~{INIT} (io), F2 PL7D/VREF_0_09 (io), F3 PL4A/VREF_0_08 (io), F4 PL2D/PLL_CK0C/HPPLL (io), G1 PL10C/DOUT (io), G2 PL8C/CS1 (io), G3 PL5B (io), G4 PL2C/PLL_CK0T/HPPLL (io), H2 PL9D (io), H3 PL8D/~{CS}0 (io), H4 PL5A (io), H5 PL4C/D6 (io), J2 PL11C/A16/PPC_A30 (io), J3 PL9C (io), J4 PL7B (io), J5 PL4D/D5 (io), K3 PL11D/VREF_0_10 (io), K4 PL8A (io), K5 PL7A (io), L4 PL11B (io), L5 PL8B (io), M5 PL9B (io)
part B pins: A15 PT14C/VREF_1_06 (io), A16 PT14D (io), A17 PT15D (io), A18 PT16D/VREF_1_05 (io), A19 PT17A (io), A20 PT17B (io), A21 PT18C/PTCK1T (io), A22 PT18D/PTCK1C (io), A23 PT20C (io), A24 PT21A (io), A25 PT21B (io), A26 PT24C/VREF_1_03 (io), A27 PT24D (io), A28 PT26B (io), A29 PT31D (io), A30 PT32B (io), B13 VDDIO1 (power), B15 VDDIO1 (power), B16 PT15C (io), B17 VDDIO1 (power), B18 PT16C (io), B19 PT17C/PTCK0T (io), B20 PT17D/PTCK0C (io), B21 PT19C/VREF_1_04 (io), B22 PT19D (io), B23 PT20D (io), B24 PT23B (io), B25 PT25C (io), B26 PT25D (io), B27 PT25B (io), B28 PT30D (io), B29 PT33D (io), B30 PT36D (io), C17 PT16B (io), C18 PT19B (io), C19 PT19A (io), C20 PT21C (io), C21 PT21D (io), C22 PT23D (io), C23 PT23C (io), C24 PT24B (io), C25 PT27C (io), C26 PT27D/VREF_1_01 (io), C27 PT29D (io), C28 PT30C (io), C29 PT33C/VREF_1_08 (io), C30 PT36B (io), D11 VDDIO1 (power), D13 VDDIO1 (power), D14 PT14B (io), D15 VDDIO1 (power), D16 PT16A (io), D17 PT18B (io), D18 PT18A (io), D19 PT22C (io), D20 PT22D (io), D21 PT26C/VREF_1_02 (io), D22 PT26D (io), D23 PT28A (io), D24 PT28B (io), D25 PT28C (io), D26 PT28D (io), D27 PT29C (io), D28 PT30A (io), D29 PT34B (io), D30 PT35D (io), E14 PT15A (io), E15 PT15B (io), E16 PT20A (io), E17 PT20B (io), E18 PT22A (io), E19 PT22B (io), E20 PT27A (io), E21 PT27B (io), E22 PT29A (io), E23 PT29B (io), E24 PT31A (io), E25 PT31C/VREF_1_09 (io), E26 PT32C (io), E27 PT32D (io), E28 PT34D/VREF_1_07 (io), E29 PT35B (io)
part C pins: AK15 PB17B (io), AK16 PB18D (io), AK17 PB20A (io), AK18 PB22B (io), AK19 PB23D/PBCK1C (io), AK20 PB24A (io), AK21 PB25C (io), AK22 PB29C (io), AK23 PB29D (io), AK24 PB31B (io), AK25 PB32C (io), AK26 PB34D (io), AK27 PB36B (io), AK29 PB36D (io), AL11 VDDIO5 (power), AL13 VDDIO5 (power), AL15 VDDIO5 (power), AL16 PB17A (io), AL17 PB18C/VREF_5_01 (io), AL18 PB20B (io), AL19 PB22A (io), AL20 PB23C/PBCK1T (io), AL21 PB24B (io), AL22 PB25D/VREF_5_04 (io), AL23 PB26B (io), AL24 PB27A (io), AL25 PB30B (io), AL26 PB32D (io), AL27 PB33C (io), AL28 PB33D/VREF_5_08 (io), AL29 PB35D/VREF_5_09 (io), AL30 PB36C (io), AM18 PB19B (io), AM19 PB19A (io), AM20 PB19D/PBCK0C (io), AM21 PB21B (io), AM22 PB21A (io), AM23 PB24D (io), AM24 PB26A (io), AM25 PB27B (io), AM26 PB29B (io), AM27 PB28C (io), AM28 PB31D (io), AM29 PB31C/VREF_5_07 (io), AM30 PB35B (io), AN13 VDDIO5 (power), AN15 VDDIO5 (power), AN17 VDDIO5 (power), AN18 PB17C (io), AN19 PB17D (io), AN20 PB19C/PBCK0T (io), AN21 PB20D (io), AN22 PB21D/VREF_5_03 (io), AN23 PB22D (io), AN24 PB24C (io), AN25 PB25B (io), AN26 PB25A (io), AN27 PB26D/VREF_5_05 (io), AN28 PB28D/VREF_5_06 (io), AN29 PB28B (io), AN30 PB32B (io), AN31 PB34B (io), AP20 PB18A (io), AP21 PB18B (io), AP22 PB20C/VREF_5_02 (io), AP23 PB21C (io), AP24 PB22C (io), AP25 PB23A (io), AP26 PB23B (io), AP27 PB26C (io), AP28 PB27C (io), AP29 PB27D (io), AP30 PB30C (io), AP31 PB30D (io)
part D pins: AE4 PL32B (io), AE5 PL33D/D9 (io), AF3 PL32D/D8 (io), AF4 PL32A (io), AF5 PL33C/D10 (io), AG3 PL32C/VREF_6_01 (io), AG4 PL35B/D11 (io), AG5 PL38B (io), AH2 PL34C/VREF_6_02 (io), AH3 PL35A/D12 (io), AH4 PL37A/VREF_6_04 (io), AH5 PL38A (io), AJ1 PL34D (io), AJ2 PL34A (io), AJ3 PL37D (io), AJ4 PL37B (io), AK1 PL34B (io), AK2 PL36C (io), AK3 PL38C (io), AK4 PL39A (io), AK6 PB3C (io), AK7 PB3D (io), AK8 PB5B (io), AK9 PB7B (io), AK10 PB8C/VREF_6_07 (io), AK11 PB10B (io), AK12 PB11D/D24 (io), AK13 PB14A (io), AK14 PB14B (io), AL1 PL36D (io), AL2 PL36A/D13 (io), AL3 PL39B (io), AL5 PB2B (io), AL6 PB4A/VREF_6_05 (io), AL7 VDDIO6 (power), AL8 PB6C/D15 (io), AL9 PB6D/D16 (io), AL10 PB8D/D19 (io), AL12 PB11C/D23 (io), AL14 PB14D/D28 (io), AM1 PL36B/VREF_6_03 (io), AM2 PL39C/PLL_CK7T/HPPLL (io), AM4 PB2A/DP2 (io), AM5 VDDIO6 (power), AM6 PB4B/DP3 (io), AM7 PB6A (io), AM8 PB7D/D18 (io), AM9 VDDIO6 (power), AM10 PB9C/D20 (io), AM11 PB9D/D21 (io), AM12 PB12B (io), AM13 PB13A (io), AM14 PB14C/VREF_6_10 (io), AM15 PB15C/D29 (io), AM16 PB16B (io), AM17 PB16A (io), AN1 PL39D/PLL_CK7C/HPPLL (io), AN2 VDDIO6 (power), AN3 VDDIO6 (power), AN4 PB3B (io), AN5 PB4C (io), AN6 PB6B (io), AN7 VDDIO6 (power), AN8 PB7C/D17 (io), AN9 PB8A (io), AN10 PB10C/VREF_6_08 (io), AN11 PB11A (io), AN12 PB12A (io), AN14 PB13B (io), AN16 PB15D/D30 (io), AP1 VDDIO6 (power), AP2 VDDIO6 (power), AP3 PB2C/PLL_CK6T/PPLL (io), AP4 PB2D/PLL_CK6C/PPLL (io), AP5 PB4D (io), AP6 PB5C/VREF_6_06 (io), AP7 PB5D/D14 (io), AP8 PB8B (io), AP9 PB9B (io), AP10 PB10D/D22 (io), AP11 PB11B (io), AP12 PB12C/VREF_6_09 (io), AP13 PB12D/D25 (io), AP14 PB13C/D26 (io), AP15 PB13D/D27 (io), AP16 PB15B (io), AP17 PB15A (io), AP18 PB16C/VREF_6_11 (io), AP19 PB16D/D31 (io)
part E pins: AA1 PL23C (io), AA2 PL24A (io), AA3 VDDIO7 (power), AA4 PL25B (io), AA5 PL29C/A2/PPC_A16 (io), AB1 PL24B (io), AB2 PL25D/VREF_7_06 (io), AB3 PL26C/A5/PPC_A19 (io), AB4 PL26D/A6/PPC_A20 (io), AB5 PL29D/A3/PPC_A17 (io), AC1 PL25C/A7/PPC_A21 (io), AC2 VDDIO7 (power), AC3 PL27B (io), AC4 PL27A (io), AC5 PL31C/DP1 (io), AD1 PL26B (io), AD2 PL27C/VREF_7_07 (io), AD3 PL29B (io), AD4 PL30B (io), AD5 PL31D/DP0 (io), AE1 PL27D/~{WR}/MPI_RW (io), AE2 PL28C/VREF_7_08 (io), AE3 PL30A (io), AF1 PL28D/A4/PPC_A18 (io), AF2 PL30C/A0/PPC_A14 (io), AG1 PL30D/A1/PPC_A15 (io), AG2 PL31B (io), AH1 PL31A (io), H1 PL13D/VREF_7_01 (io), J1 PL13C/D4 (io), K1 PL14B (io), K2 PL12A (io), L1 PL14A (io), L2 PL14C/VREF_7_02 (io), L3 PL12B (io), M1 PL15A (io), M2 PL15B (io), M3 PL14D/RDY/~{BUSY}/RCLK (io), M4 PL12C/A14/PPC_A28 (io), N1 PL16C (io), N2 PL16D (io), N3 VDDIO7 (power), N4 PL13B (io), N5 PL12D/A15/PPC_A29 (io), P1 PL18D (io), P2 PL17D/A11/PPC_A25 (io), P3 PL15C/A12/PPC_A26 (io), P4 PL15D/A13/PPC_A27 (io), P5 PL13A (io), R1 PL18C (io), R2 VDDIO7 (power), R3 PL17C/VREF_7_03 (io), R4 PL16B (io), R5 PL17B (io), T1 PL19A (io), T2 PL19C/VREF_7_04 (io), T3 PL19D/~{RD}/~{MPI_STRB} (io), T4 PL18A (io), T5 PL18B (io), U1 PL19B (io), U2 PL20B (io), U3 VDDIO7 (power), U4 PL20D/PLCK0C (io), U5 PL20C/PLCK0T (io), V1 PL20A (io), V2 PL21D/A10/PPC_A24 (io), V3 PL21C/A9/PPC_A23 (io), V4 PL21B (io), V5 PL21A (io), W1 PL22B (io), W2 VDDIO7 (power), W3 PL22C/VREF_7_05 (io), W4 PL22D/A8/PPC_A22 (io), W5 PL24C/PLCK1T (io), Y1 PL22A (io), Y2 PL23D (io), Y3 PL23A (io), Y4 PL23B (io), Y5 PL24D/PLCK1C (io)
part F pins: A32 PASB_TESTCLK (in), A33 PASB_TRISTN (in), AA33 HDOUTN_BC (out), AA34 HDOUTP_BC (out), AB33 HDINN_BC (in), AB34 HDINP_BC (in), AC33 HDOUTN_BB (out), AC34 HDOUTP_BB (out), AD33 HDINN_BB (in), AD34 HDINP_BB (in), AE30 REFCLKN_B (in), AE31 REFCLKP_B (in), AE33 HDOUTN_BA (out), AE34 HDOUTP_BA (out), AF30 REXT_B (out), AF31 REXTN_B (out), AF33 HDINN_BA (in), AF34 HDINP_BA (in), AH30 PSCHAR_CV (io), AH31 PSCHAR_BYTSYNC (io), AH32 ATMOUT_B (NC), AJ5 LVDS_R, AJ30 PSCHAR_LDIO1 (io), AJ31 PSCHAR_CKIO0 (io), AJ33 PSCHAR_XCK (io), AJ34 PSCHAR_WDSYNC (io), AK30 PSCHAR_LDIO3 (io), AK33 PSCHAR_LDIO0 (io), AK34 PSCHAR_CKIO1 (io), AL31 PSCHAR_LDIO5 (io), AL32 PSCHAR_LDIO2 (io), AM3 PTEMP (in), AM31 PSCHAR_LDIO6 (io), AM33 PSCHAR_LDIO4 (io), AN32 PSCHAR_LDIO7 (io), AP32 PSCHAR_LDIO9 (io), AP33 PSCHAR_LDIO8 (io), B31 PMP_TESTCLK_ENN (in), B32 PASB_RESETN (in), C32 PMP_TESTCLK (in), D3 ~{PRGRM} (in), D4 DONE (io), D5 ~{CFG_IRQ}/~{MPI_IRQ} (out), D31 PASB_PDN (in), D32 PBIST_TEST_ENN (in), E4 RD_DATA/TDO (out), E6 CCLK (io), E30 PLOOP_TEST_ENN (in), F5 ~{RESET} (in), F30 PSYS_DOBISTN (in), F31 PSYS_RSSIG_ALL (out), F33 PRESERVE02 (in), G5 ~{RD_CFG} (in), G30 PRESERVE03 (in), G31 PRESERVE01 (in), G32 ATMOUT_A (NC), J30 REXT_A (out), J31 REXTN_A (out), J33 HDINN_AA (in), J34 HDINP_AA (in), K30 REFCLKN_A (in), K31 REFCLKP_A (in), K33 HDOUTN_AA (out), K34 HDOUTP_AA (out), L33 HDINN_AB (in), L34 HDINP_AB (in), M33 HDOUTN_AB (out), M34 HDOUTP_AB (out), N33 HDINN_AC (in), N34 HDINP_AC (in), P33 HDOUTN_AC (out), P34 HDOUTP_AC (out), R33 HDINN_AD (in), R34 HDINP_AD (in), T32 NC, T33 HDOUTN_AD (out), T34 HDOUTP_AD (out), W32 NC, W33 HDOUTN_BD (out), W34 HDOUTP_BD (out), Y33 HDINN_BD (in), Y34 HDINP_BD (in)
part G pins: A31 VDD33 (power), AA16 VDD15 (power), AA17 VDD15 (power), AA18 VDD15 (power), AA19 VDD15 (power), AA30 VDDIB_BC (power), AA32 VDD_ANA (power), AB16 VDD15 (power), AB17 VDD15 (power), AB18 VDD15 (power), AB19 VDD15 (power), AB30 VDDIB_BB (power), AB31 VDDOB_BB (power), AC30 VDDOB_BA (power), AD30 VDDIB_BA (power), AD32 VDD_ANA (power), AE32 VDD_ANA (power), AH34 VDDGB_B (power), AJ32 VDD15 (power), AK5 VDD33 (power), AK28 VDD33 (power), AK31 VDD33 (power), AK32 VDD15 (power), AL4 VDD33 (power), AL33 VDD15 (power), AL34 VDD15 (power), AM32 VDD33 (power), AM34 VDD15 (power), AN34 VDD15 (power), B34 VDD15 (power), C3 VDD33 (power), C31 VDD33 (power), C33 VDD15 (power), C34 VDD15 (power), D33 VDD15 (power), D34 VDD15 (power), E5 VDD33 (power), E31 VDD33 (power), E32 VDD15 (power), E33 VDD15 (power), F32 VDD15 (power), F34 VDD15 (power), G34 VDDGB_A (power), K32 VDD_ANA (power), L30 VDDIB_AA (power), L32 VDD_ANA (power), M30 VDDOB_AA (power), N16 VDD15 (power), N17 VDD15 (power), N18 VDD15 (power), N19 VDD15 (power), N30 VDDIB_AB (power), N31 VDDOB_AB (power), P16 VDD15 (power), P17 VDD15 (power), P18 VDD15 (power), P19 VDD15 (power), P30 VDDIB_AC (power), P32 VDD_ANA (power), R16 VDD15 (power), R17 VDD15 (power), R18 VDD15 (power), R19 VDD15 (power), R30 VDDOB_AC (power), R31 VDDOB_AC (power), R32 VDD_ANA (power), T13 VDD15 (power), T14 VDD15 (power), T15 VDD15 (power), T20 VDD15 (power), T21 VDD15 (power), T22 VDD15 (power), T30 VDDIB_AD (power), U13 VDD15 (power), U14 VDD15 (power), U15 VDD15 (power), U20 VDD15 (power), U21 VDD15 (power), U22 VDD15 (power), U30 VDDOB_AD (power), U31 VDDOB_AD (power), V13 VDD15 (power), V14 VDD15 (power), V15 VDD15 (power), V20 VDD15 (power), V21 VDD15 (power), V22 VDD15 (power), V30 VDDOB_BD (power), V31 VDDOB_BD (power), W13 VDD15 (power), W14 VDD15 (power), W15 VDD15 (power), W20 VDD15 (power), W21 VDD15 (power), W22 VDD15 (power), W30 VDDIB_BD (power), Y16 VDD15 (power), Y17 VDD15 (power), Y18 VDD15 (power), Y19 VDD15 (power), Y30 VDDOB_BC (power), Y31 VDDOB_BC (power), Y32 VDD_ANA (power)
part H pins: A1 VSS (power), A34 VSS (power), AA13 VSS (power), AA14 VSS (power), AA15 VSS (power), AA20 VSS (power), AA21 VSS (power), AA22 VSS (power), AA31 VSS (power), AB13 VSS (power), AB14 VSS (power), AB15 VSS (power), AB20 VSS (power), AB21 VSS (power), AB22 VSS (power), AB32 VSS (power), AC31 VSS (power), AC32 VSS (power), AD31 VSS (power), AF32 VSS (power), AG30 VSS (power), AG31 VSS (power), AG32 VSS (power), AG33 VSS (power), AG34 VSS (power), AH33 VSS (power), AN33 VSS (power), AP34 VSS (power), B2 VSS (power), B33 VSS (power), E34 VSS (power), G33 VSS (power), H30 VSS (power), H31 VSS (power), H32 VSS (power), H33 VSS (power), H34 VSS (power), J32 VSS (power), L31 VSS (power), M31 VSS (power), M32 VSS (power), N13 VSS (power), N14 VSS (power), N15 VSS (power), N20 VSS (power), N21 VSS (power), N22 VSS (power), N32 VSS (power), P13 VSS (power), P14 VSS (power), P15 VSS (power), P20 VSS (power), P21 VSS (power), P22 VSS (power), P31 VSS (power), R13 VSS (power), R14 VSS (power), R15 VSS (power), R20 VSS (power), R21 VSS (power), R22 VSS (power), T16 VSS (power), T17 VSS (power), T18 VSS (power), T19 VSS (power), T31 VSS (power), U16 VSS (power), U17 VSS (power), U18 VSS (power), U19 VSS (power), U32 VSS (power), U33 VSS (power), U34 VSS (power), V16 VSS (power), V17 VSS (power), V18 VSS (power), V19 VSS (power), V32 VSS (power), V33 VSS (power), V34 VSS (power), W16 VSS (power), W17 VSS (power), W18 VSS (power), W19 VSS (power), W31 VSS (power), Y13 VSS (power), Y14 VSS (power), Y15 VSS (power), Y20 VSS (power), Y21 VSS (power), Y22 VSS (power)
part A text: Bank 0
part B text: Bank 1
part C text: Bank 5
part D text: Bank 6
part E text: Bank 7

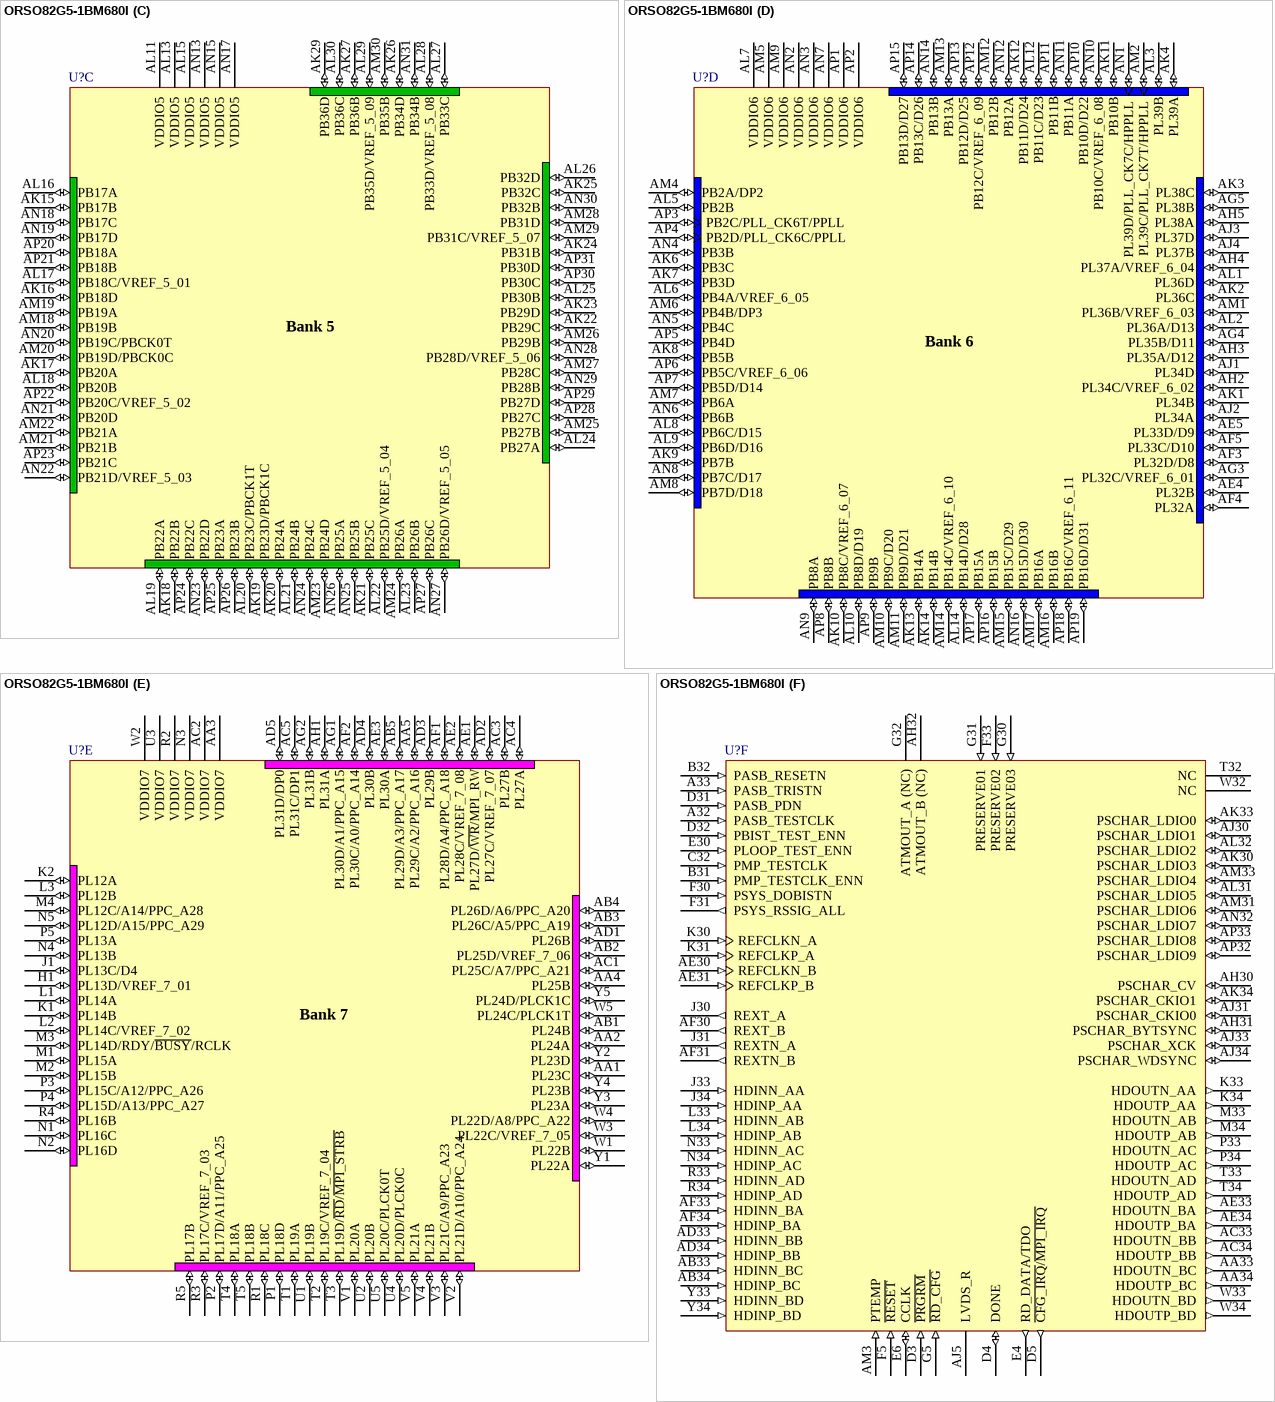
[diagram p13: symbol ORSO82G5-1BM680I]

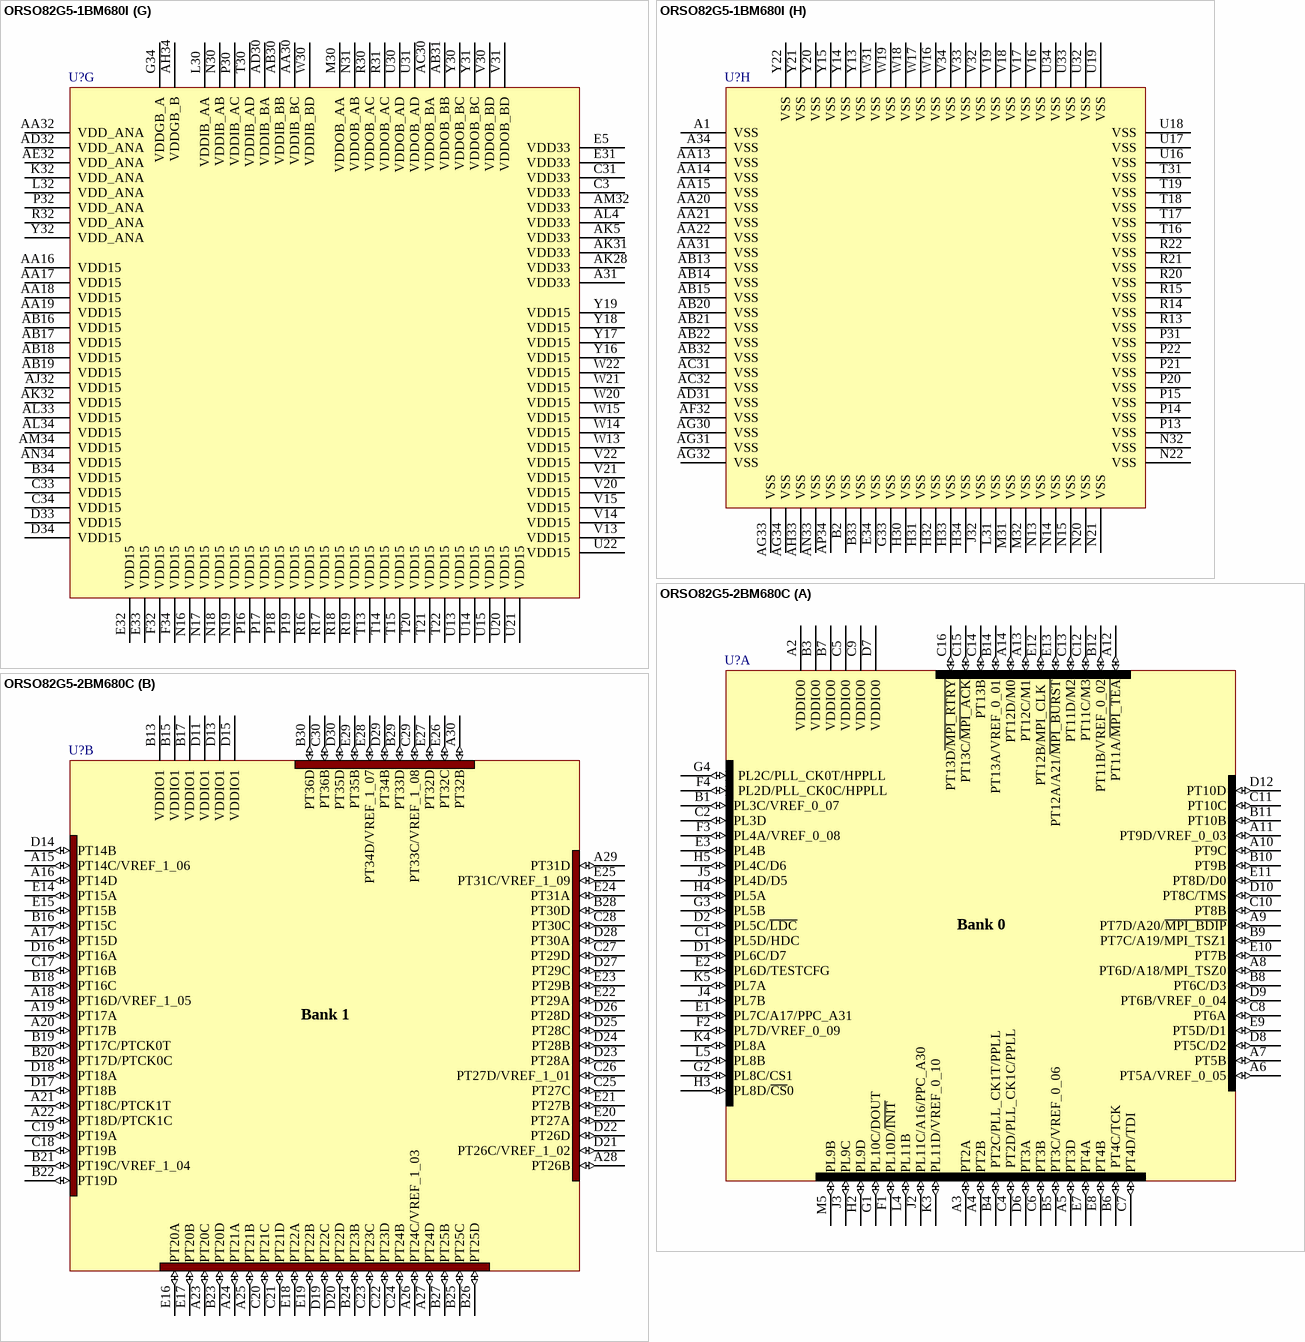
[diagram p14: symbols ORSO82G5-1BM680I to ORSO82G5-2BM680C]